# Altium integrated library Microchip dsPIC33F.IntLib: 775 symbols (part 38 of 44)
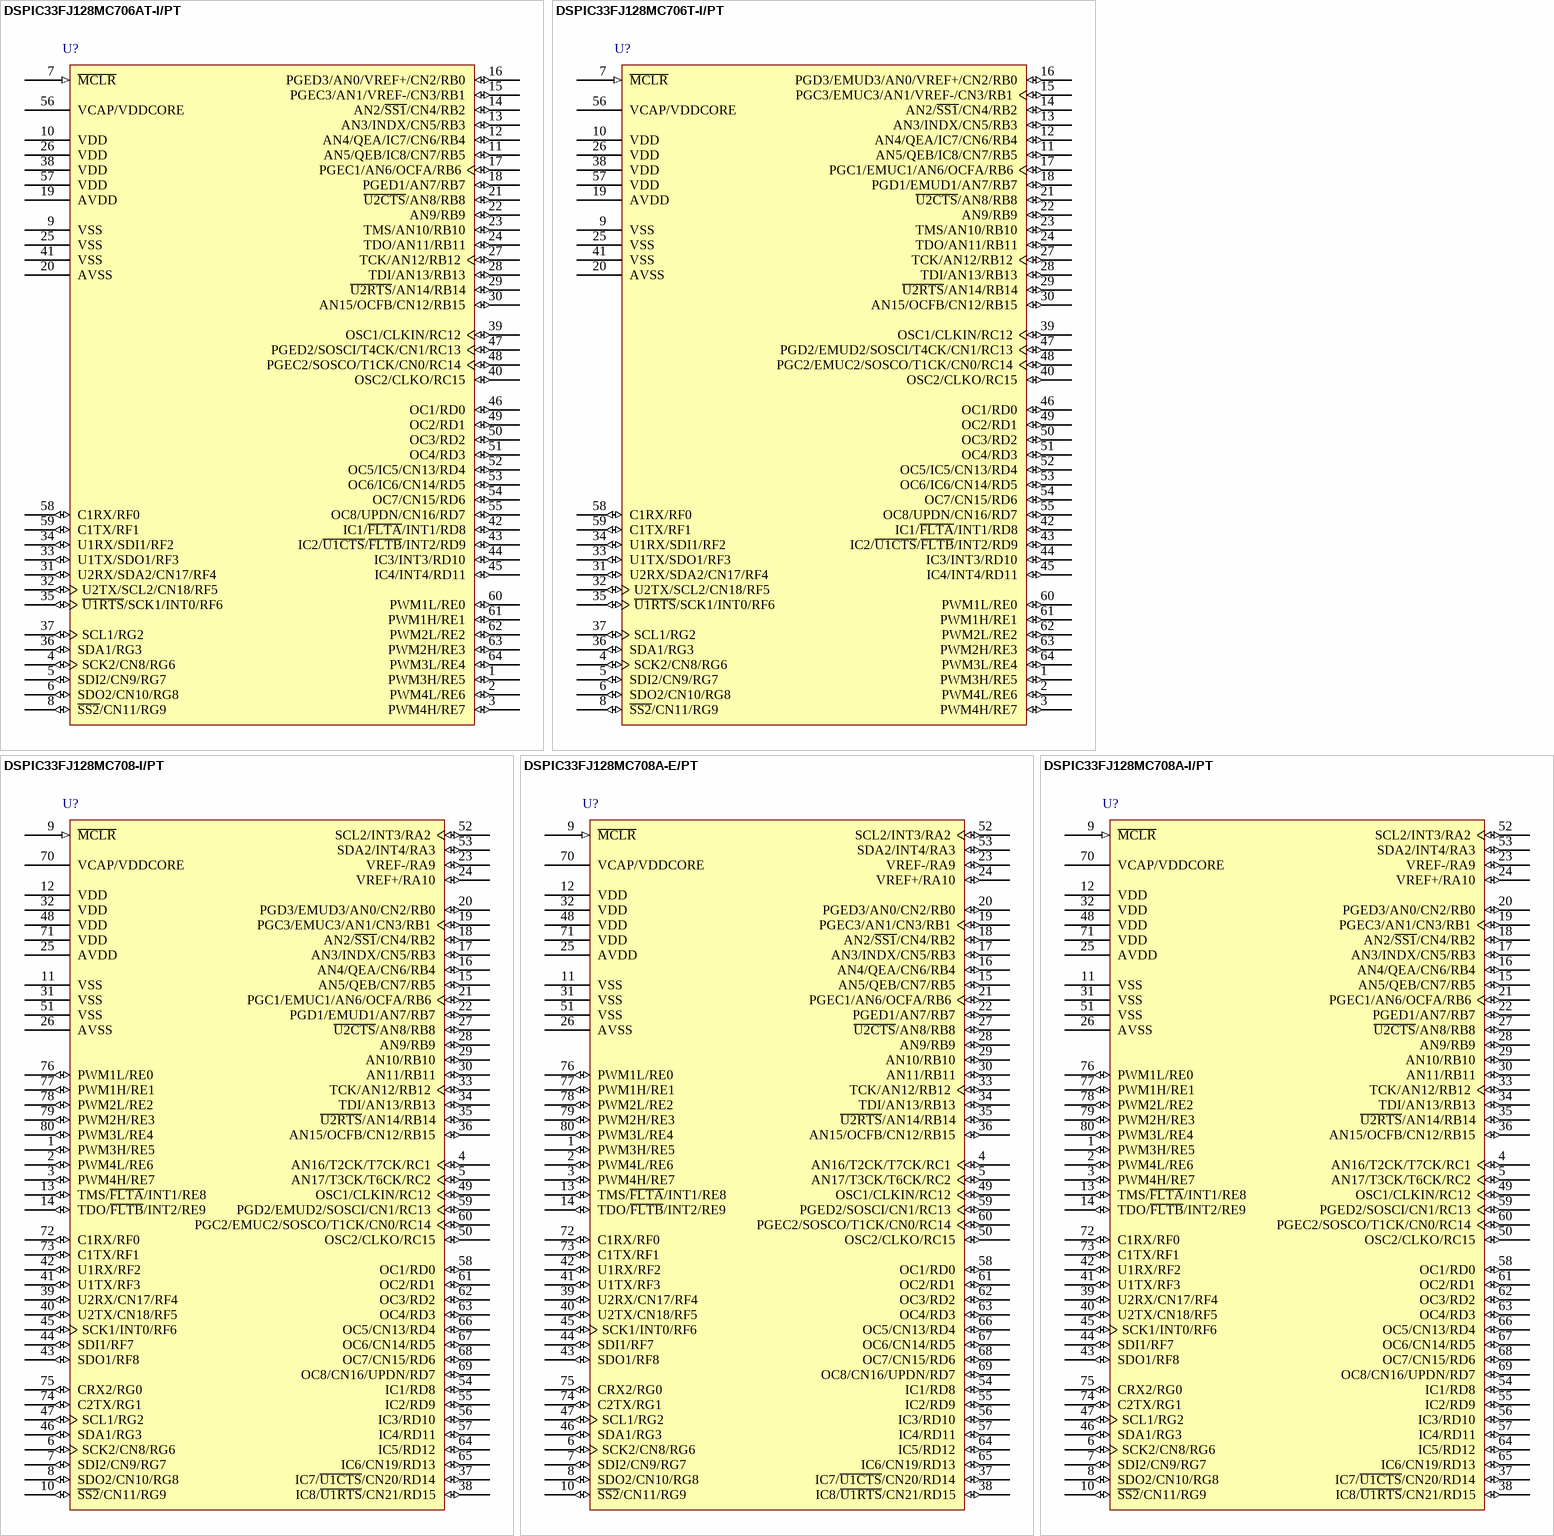
[diagram p195: symbols DSPIC33FJ128MC706AT-I/PT to DSPIC33FJ128MC708A-I/PT]

## DSPIC33FJ128MC708A-E/PT
designator U?
High-Performance 16-bit Digital Signal Controller, 128 KB Flash, 16 KB RAM , 80-Pin TQFP, Extended High Temperature; Manufacturer: Microchip; PartNumber: DSPIC33FJ128MC708A-E/PT; DatasheetVersion: revB, Oct-2009; PackageVersion: revBB, Aug-2009; PackageReference: TQFP-PT80; PackageDescription: 80-Lead Thin Plastic Quad Flat Pack (PT) - 12x12x1mm Body, 2.00mm [TQFP]; Supplier 1: Digi-Key; Supplier Part Number 1: DSPIC33FJ128MC708A-E/PT-ND; Supplier 2: Mouser; Supplier Part Number 2: 579-PIC3128MC708AEPT; Mounting Technology: Surface Mount; Code_JEDEC: MS-026; ComponentLink1Description: Manufacturer URL; ComponentLink1URL: http://www.microchip.com/; ComponentLink2Description: Datasheet; ComponentLink2URL: http://ww1.microchip.com/downloads/en/DeviceDoc/70594B.pdf; ComponentLink3Description: Package Specification; ComponentLink3URL: http://www.microchip.com/stellent/groups/techpub_sg/documents/packagingspec/en012702.pdf
footprint TQFP-PT80_N (Thin QFP, 80-Leads, Body 12x12mm, Pitch 0.5mm, IPC Medium Density)
footprint TQFP-PT80_L (Thin QFP, 80-Leads, Body 12x12mm, Pitch 0.5mm, IPC High Density)
footprint TQFP-PT80_M (Thin QFP, 80-Leads, Body 12x12mm, Pitch 0.5mm, IPC Low Density)
pins: 1 PWM3H/RE5 (io), 2 PWM4L/RE6 (io), 3 PWM4H/RE7 (io), 4 AN16/T2CK/T7CK/RC1 (io), 5 AN17/T3CK/T6CK/RC2 (io), 6 SCK2/CN8/RG6 (io), 7 SDI2/CN9/RG7 (io), 8 SDO2/CN10/RG8 (io), 9 ~{MCLR} (in), 10 ~{SS2}/CN11/RG9 (io), 11 VSS (power), 12 VDD (power), 13 TMS/~{FLTA}/INT1/RE8 (io), 14 TDO/~{FLTB}/INT2/RE9 (io), 15 AN5/QEB/CN7/RB5 (io), 16 AN4/QEA/CN6/RB4 (io), 17 AN3/INDX/CN5/RB3 (io), 18 AN2/~{SS1}/CN4/RB2 (io), 19 PGEC3/AN1/CN3/RB1 (io), 20 PGED3/AN0/CN2/RB0 (io), 21 PGEC1/AN6/OCFA/RB6 (io), 22 PGED1/AN7/RB7 (io), 23 VREF-/RA9 (io), 24 VREF+/RA10 (io), 25 AVDD (power), 26 AVSS (power), 27 ~{U2CTS}/AN8/RB8 (io), 28 AN9/RB9 (io), 29 AN10/RB10 (io), 30 AN11/RB11 (io), 31 VSS (power), 32 VDD (power), 33 TCK/AN12/RB12 (io), 34 TDI/AN13/RB13 (io), 35 ~{U2RTS}/AN14/RB14 (io), 36 AN15/OCFB/CN12/RB15 (io), 37 IC7/~{U1CTS}/CN20/RD14 (io), 38 IC8/~{U1RTS}/CN21/RD15 (io), 39 U2RX/CN17/RF4 (io), 40 U2TX/CN18/RF5 (io), 41 U1TX/RF3 (io), 42 U1RX/RF2 (io), 43 SDO1/RF8 (io), 44 SDI1/RF7 (io), 45 SCK1/INT0/RF6 (io), 46 SDA1/RG3 (io), 47 SCL1/RG2 (io), 48 VDD (power), 49 OSC1/CLKIN/RC12 (io), 50 OSC2/CLKO/RC15 (io), 51 VSS (power), 52 SCL2/INT3/RA2 (io), 53 SDA2/INT4/RA3 (io), 54 IC1/RD8 (io), 55 IC2/RD9 (io), 56 IC3/RD10 (io), 57 IC4/RD11 (io), 58 OC1/RD0 (io), 59 PGED2/SOSCI/CN1/RC13 (io), 60 PGEC2/SOSCO/T1CK/CN0/RC14 (io), 61 OC2/RD1 (io), 62 OC3/RD2 (io), 63 OC4/RD3 (io), 64 IC5/RD12 (io), 65 IC6/CN19/RD13 (io), 66 OC5/CN13/RD4 (io), 67 OC6/CN14/RD5 (io), 68 OC7/CN15/RD6 (io), 69 OC8/CN16/UPDN/RD7 (io), 70 VCAP/VDDCORE (power), 71 VDD (power), 72 C1RX/RF0 (io), 73 C1TX/RF1 (io), 74 C2TX/RG1 (io), 75 CRX2/RG0 (io), 76 PWM1L/RE0 (io), 77 PWM1H/RE1 (io), 78 PWM2L/RE2 (io), 79 PWM2H/RE3 (io), 80 PWM3L/RE4 (io)

## DSPIC33FJ128MC708A-I/PT
designator U?
High-Performance 16-bit Digital Signal Controller, 128 KB Flash, 16 KB RAM , 80-Pin TQFP, Industrial Temperature; Manufacturer: Microchip; PartNumber: DSPIC33FJ128MC708A-I/PT; DatasheetVersion: revB, Oct-2009; PackageVersion: revBB, Aug-2009; PackageReference: TQFP-PT80; PackageDescription: 80-Lead Thin Plastic Quad Flat Pack (PT) - 12x12x1mm Body, 2.00mm [TQFP]; Supplier 1: Digi-Key; Supplier Part Number 1: DSPIC33FJ128MC708A-I/PT-ND; Supplier 2: Newark; Supplier Part Number 2: 45P4636; Supplier 3: Mouser; Supplier Part Number 3: N/A; Mounting Technology: Surface Mount; Code_JEDEC: MS-026; ComponentLink1Description: Manufacturer URL; ComponentLink1URL: http://www.microchip.com/; ComponentLink2Description: Datasheet; ComponentLink2URL: http://ww1.microchip.com/downloads/en/DeviceDoc/70594B.pdf; ComponentLink3Description: Package Specification; ComponentLink3URL: http://www.microchip.com/stellent/groups/techpub_sg/documents/packagingspec/en012702.pdf
footprint TQFP-PT80_N (Thin QFP, 80-Leads, Body 12x12mm, Pitch 0.5mm, IPC Medium Density)
footprint TQFP-PT80_L (Thin QFP, 80-Leads, Body 12x12mm, Pitch 0.5mm, IPC High Density)
footprint TQFP-PT80_M (Thin QFP, 80-Leads, Body 12x12mm, Pitch 0.5mm, IPC Low Density)
pins: 1 PWM3H/RE5 (io), 2 PWM4L/RE6 (io), 3 PWM4H/RE7 (io), 4 AN16/T2CK/T7CK/RC1 (io), 5 AN17/T3CK/T6CK/RC2 (io), 6 SCK2/CN8/RG6 (io), 7 SDI2/CN9/RG7 (io), 8 SDO2/CN10/RG8 (io), 9 ~{MCLR} (in), 10 ~{SS2}/CN11/RG9 (io), 11 VSS (power), 12 VDD (power), 13 TMS/~{FLTA}/INT1/RE8 (io), 14 TDO/~{FLTB}/INT2/RE9 (io), 15 AN5/QEB/CN7/RB5 (io), 16 AN4/QEA/CN6/RB4 (io), 17 AN3/INDX/CN5/RB3 (io), 18 AN2/~{SS1}/CN4/RB2 (io), 19 PGEC3/AN1/CN3/RB1 (io), 20 PGED3/AN0/CN2/RB0 (io), 21 PGEC1/AN6/OCFA/RB6 (io), 22 PGED1/AN7/RB7 (io), 23 VREF-/RA9 (io), 24 VREF+/RA10 (io), 25 AVDD (power), 26 AVSS (power), 27 ~{U2CTS}/AN8/RB8 (io), 28 AN9/RB9 (io), 29 AN10/RB10 (io), 30 AN11/RB11 (io), 31 VSS (power), 32 VDD (power), 33 TCK/AN12/RB12 (io), 34 TDI/AN13/RB13 (io), 35 ~{U2RTS}/AN14/RB14 (io), 36 AN15/OCFB/CN12/RB15 (io), 37 IC7/~{U1CTS}/CN20/RD14 (io), 38 IC8/~{U1RTS}/CN21/RD15 (io), 39 U2RX/CN17/RF4 (io), 40 U2TX/CN18/RF5 (io), 41 U1TX/RF3 (io), 42 U1RX/RF2 (io), 43 SDO1/RF8 (io), 44 SDI1/RF7 (io), 45 SCK1/INT0/RF6 (io), 46 SDA1/RG3 (io), 47 SCL1/RG2 (io), 48 VDD (power), 49 OSC1/CLKIN/RC12 (io), 50 OSC2/CLKO/RC15 (io), 51 VSS (power), 52 SCL2/INT3/RA2 (io), 53 SDA2/INT4/RA3 (io), 54 IC1/RD8 (io), 55 IC2/RD9 (io), 56 IC3/RD10 (io), 57 IC4/RD11 (io), 58 OC1/RD0 (io), 59 PGED2/SOSCI/CN1/RC13 (io), 60 PGEC2/SOSCO/T1CK/CN0/RC14 (io), 61 OC2/RD1 (io), 62 OC3/RD2 (io), 63 OC4/RD3 (io), 64 IC5/RD12 (io), 65 IC6/CN19/RD13 (io), 66 OC5/CN13/RD4 (io), 67 OC6/CN14/RD5 (io), 68 OC7/CN15/RD6 (io), 69 OC8/CN16/UPDN/RD7 (io), 70 VCAP/VDDCORE (power), 71 VDD (power), 72 C1RX/RF0 (io), 73 C1TX/RF1 (io), 74 C2TX/RG1 (io), 75 CRX2/RG0 (io), 76 PWM1L/RE0 (io), 77 PWM1H/RE1 (io), 78 PWM2L/RE2 (io), 79 PWM2H/RE3 (io), 80 PWM3L/RE4 (io)

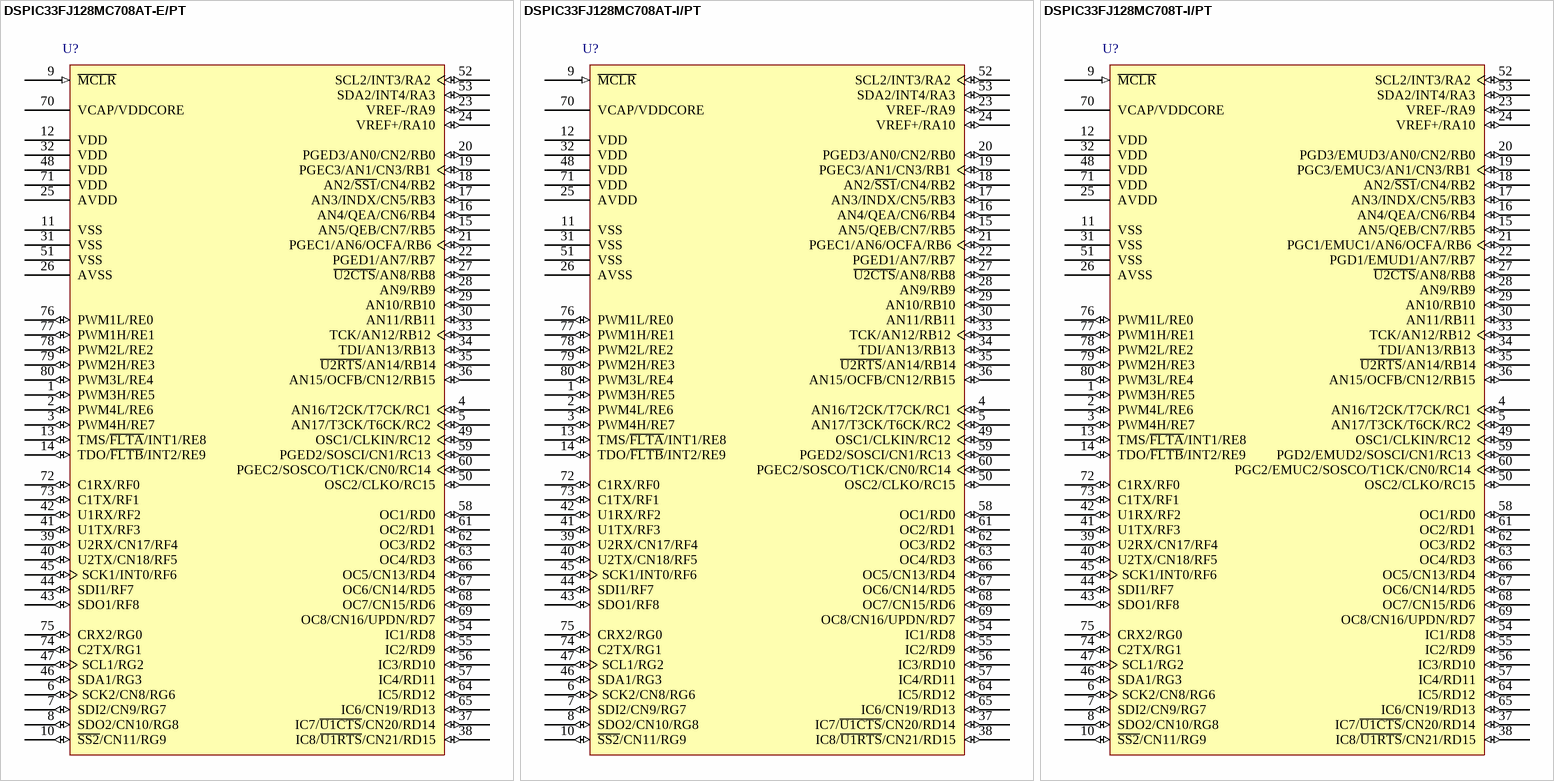
[diagram p133: symbols DSPIC33FJ128MC708AT-E/PT to DSPIC33FJ128MC708T-I/PT]

## DSPIC33FJ128MC708AT-E/PT
designator U?
High-Performance 16-bit Digital Signal Controller, 128 KB Flash, 16 KB RAM , 80-Pin TQFP, Extended High Temperature , Tape and Reel; Manufacturer: Microchip; PartNumber: DSPIC33FJ128MC708AT-E/PT; DatasheetVersion: revB, Oct-2009; PackageVersion: revBB, Aug-2009; PackageReference: TQFP-PT80; PackageDescription: 80-Lead Thin Plastic Quad Flat Pack (PT) - 12x12x1mm Body, 2.00mm [TQFP]; Mounting Technology: Surface Mount; Code_JEDEC: MS-026; ComponentLink1Description: Manufacturer URL; ComponentLink1URL: http://www.microchip.com/; ComponentLink2Description: Datasheet; ComponentLink2URL: http://ww1.microchip.com/downloads/en/DeviceDoc/70594B.pdf; ComponentLink3Description: Package Specification; ComponentLink3URL: http://www.microchip.com/stellent/groups/techpub_sg/documents/packagingspec/en012702.pdf
footprint TQFP-PT80_N (Thin QFP, 80-Leads, Body 12x12mm, Pitch 0.5mm, IPC Medium Density)
footprint TQFP-PT80_L (Thin QFP, 80-Leads, Body 12x12mm, Pitch 0.5mm, IPC High Density)
footprint TQFP-PT80_M (Thin QFP, 80-Leads, Body 12x12mm, Pitch 0.5mm, IPC Low Density)
pins: 1 PWM3H/RE5 (io), 2 PWM4L/RE6 (io), 3 PWM4H/RE7 (io), 4 AN16/T2CK/T7CK/RC1 (io), 5 AN17/T3CK/T6CK/RC2 (io), 6 SCK2/CN8/RG6 (io), 7 SDI2/CN9/RG7 (io), 8 SDO2/CN10/RG8 (io), 9 ~{MCLR} (in), 10 ~{SS2}/CN11/RG9 (io), 11 VSS (power), 12 VDD (power), 13 TMS/~{FLTA}/INT1/RE8 (io), 14 TDO/~{FLTB}/INT2/RE9 (io), 15 AN5/QEB/CN7/RB5 (io), 16 AN4/QEA/CN6/RB4 (io), 17 AN3/INDX/CN5/RB3 (io), 18 AN2/~{SS1}/CN4/RB2 (io), 19 PGEC3/AN1/CN3/RB1 (io), 20 PGED3/AN0/CN2/RB0 (io), 21 PGEC1/AN6/OCFA/RB6 (io), 22 PGED1/AN7/RB7 (io), 23 VREF-/RA9 (io), 24 VREF+/RA10 (io), 25 AVDD (power), 26 AVSS (power), 27 ~{U2CTS}/AN8/RB8 (io), 28 AN9/RB9 (io), 29 AN10/RB10 (io), 30 AN11/RB11 (io), 31 VSS (power), 32 VDD (power), 33 TCK/AN12/RB12 (io), 34 TDI/AN13/RB13 (io), 35 ~{U2RTS}/AN14/RB14 (io), 36 AN15/OCFB/CN12/RB15 (io), 37 IC7/~{U1CTS}/CN20/RD14 (io), 38 IC8/~{U1RTS}/CN21/RD15 (io), 39 U2RX/CN17/RF4 (io), 40 U2TX/CN18/RF5 (io), 41 U1TX/RF3 (io), 42 U1RX/RF2 (io), 43 SDO1/RF8 (io), 44 SDI1/RF7 (io), 45 SCK1/INT0/RF6 (io), 46 SDA1/RG3 (io), 47 SCL1/RG2 (io), 48 VDD (power), 49 OSC1/CLKIN/RC12 (io), 50 OSC2/CLKO/RC15 (io), 51 VSS (power), 52 SCL2/INT3/RA2 (io), 53 SDA2/INT4/RA3 (io), 54 IC1/RD8 (io), 55 IC2/RD9 (io), 56 IC3/RD10 (io), 57 IC4/RD11 (io), 58 OC1/RD0 (io), 59 PGED2/SOSCI/CN1/RC13 (io), 60 PGEC2/SOSCO/T1CK/CN0/RC14 (io), 61 OC2/RD1 (io), 62 OC3/RD2 (io), 63 OC4/RD3 (io), 64 IC5/RD12 (io), 65 IC6/CN19/RD13 (io), 66 OC5/CN13/RD4 (io), 67 OC6/CN14/RD5 (io), 68 OC7/CN15/RD6 (io), 69 OC8/CN16/UPDN/RD7 (io), 70 VCAP/VDDCORE (power), 71 VDD (power), 72 C1RX/RF0 (io), 73 C1TX/RF1 (io), 74 C2TX/RG1 (io), 75 CRX2/RG0 (io), 76 PWM1L/RE0 (io), 77 PWM1H/RE1 (io), 78 PWM2L/RE2 (io), 79 PWM2H/RE3 (io), 80 PWM3L/RE4 (io)

## DSPIC33FJ128MC708AT-I/PT
designator U?
High-Performance 16-bit Digital Signal Controller, 128 KB Flash, 16 KB RAM , 80-Pin TQFP, Industrial Temperature , Tape and Reel; Manufacturer: Microchip; PartNumber: DSPIC33FJ128MC708AT-I/PT; DatasheetVersion: revB, Oct-2009; PackageVersion: revBB, Aug-2009; PackageReference: TQFP-PT80; PackageDescription: 80-Lead Thin Plastic Quad Flat Pack (PT) - 12x12x1mm Body, 2.00mm [TQFP]; Supplier 1: Digi-Key; Supplier Part Number 1: DSPIC33FJ128MC708AT-I/PT-ND; Supplier 2: Mouser; Supplier Part Number 2: 579-FJ128MC708ATI/PT; Mounting Technology: Surface Mount; Code_JEDEC: MS-026; ComponentLink1Description: Manufacturer URL; ComponentLink1URL: http://www.microchip.com/; ComponentLink2Description: Datasheet; ComponentLink2URL: http://ww1.microchip.com/downloads/en/DeviceDoc/70594B.pdf; ComponentLink3Description: Package Specification; ComponentLink3URL: http://www.microchip.com/stellent/groups/techpub_sg/documents/packagingspec/en012702.pdf
footprint TQFP-PT80_N (Thin QFP, 80-Leads, Body 12x12mm, Pitch 0.5mm, IPC Medium Density)
footprint TQFP-PT80_L (Thin QFP, 80-Leads, Body 12x12mm, Pitch 0.5mm, IPC High Density)
footprint TQFP-PT80_M (Thin QFP, 80-Leads, Body 12x12mm, Pitch 0.5mm, IPC Low Density)
pins: 1 PWM3H/RE5 (io), 2 PWM4L/RE6 (io), 3 PWM4H/RE7 (io), 4 AN16/T2CK/T7CK/RC1 (io), 5 AN17/T3CK/T6CK/RC2 (io), 6 SCK2/CN8/RG6 (io), 7 SDI2/CN9/RG7 (io), 8 SDO2/CN10/RG8 (io), 9 ~{MCLR} (in), 10 ~{SS2}/CN11/RG9 (io), 11 VSS (power), 12 VDD (power), 13 TMS/~{FLTA}/INT1/RE8 (io), 14 TDO/~{FLTB}/INT2/RE9 (io), 15 AN5/QEB/CN7/RB5 (io), 16 AN4/QEA/CN6/RB4 (io), 17 AN3/INDX/CN5/RB3 (io), 18 AN2/~{SS1}/CN4/RB2 (io), 19 PGEC3/AN1/CN3/RB1 (io), 20 PGED3/AN0/CN2/RB0 (io), 21 PGEC1/AN6/OCFA/RB6 (io), 22 PGED1/AN7/RB7 (io), 23 VREF-/RA9 (io), 24 VREF+/RA10 (io), 25 AVDD (power), 26 AVSS (power), 27 ~{U2CTS}/AN8/RB8 (io), 28 AN9/RB9 (io), 29 AN10/RB10 (io), 30 AN11/RB11 (io), 31 VSS (power), 32 VDD (power), 33 TCK/AN12/RB12 (io), 34 TDI/AN13/RB13 (io), 35 ~{U2RTS}/AN14/RB14 (io), 36 AN15/OCFB/CN12/RB15 (io), 37 IC7/~{U1CTS}/CN20/RD14 (io), 38 IC8/~{U1RTS}/CN21/RD15 (io), 39 U2RX/CN17/RF4 (io), 40 U2TX/CN18/RF5 (io), 41 U1TX/RF3 (io), 42 U1RX/RF2 (io), 43 SDO1/RF8 (io), 44 SDI1/RF7 (io), 45 SCK1/INT0/RF6 (io), 46 SDA1/RG3 (io), 47 SCL1/RG2 (io), 48 VDD (power), 49 OSC1/CLKIN/RC12 (io), 50 OSC2/CLKO/RC15 (io), 51 VSS (power), 52 SCL2/INT3/RA2 (io), 53 SDA2/INT4/RA3 (io), 54 IC1/RD8 (io), 55 IC2/RD9 (io), 56 IC3/RD10 (io), 57 IC4/RD11 (io), 58 OC1/RD0 (io), 59 PGED2/SOSCI/CN1/RC13 (io), 60 PGEC2/SOSCO/T1CK/CN0/RC14 (io), 61 OC2/RD1 (io), 62 OC3/RD2 (io), 63 OC4/RD3 (io), 64 IC5/RD12 (io), 65 IC6/CN19/RD13 (io), 66 OC5/CN13/RD4 (io), 67 OC6/CN14/RD5 (io), 68 OC7/CN15/RD6 (io), 69 OC8/CN16/UPDN/RD7 (io), 70 VCAP/VDDCORE (power), 71 VDD (power), 72 C1RX/RF0 (io), 73 C1TX/RF1 (io), 74 C2TX/RG1 (io), 75 CRX2/RG0 (io), 76 PWM1L/RE0 (io), 77 PWM1H/RE1 (io), 78 PWM2L/RE2 (io), 79 PWM2H/RE3 (io), 80 PWM3L/RE4 (io)

## DSPIC33FJ128MC708T-I/PT
designator U?
High-Performance 16-bit Digital Signal Controller, 128 KB Flash, 16 KB RAM, 80-Pin TQFP, Industrial Temperature, Tape and Reel; Manufacturer: Microchip; PartNumber: DSPIC33FJ128MC708T-I/PT; DatasheetVersion: revC, Mar-2009; PackageVersion: revBB, Aug-2009; PackageReference: TQFP-PT80; PackageDescription: 80-Lead Thin Plastic Quad Flat Pack (PT) - 12x12x1mm Body, 2.00mm [TQFP]; Supplier 1: Digi-Key; Supplier Part Number 1: DSPIC33FJ128MC708T-I/PT-ND; Supplier 2: Mouser; Supplier Part Number 2: 579-DS33FJ128708TIPT; Mounting Technology: Surface Mount; Code_JEDEC: MS-026; ComponentLink1Description: Manufacturer URL; ComponentLink1URL: http://www.microchip.com/; ComponentLink2Description: Datasheet; ComponentLink2URL: http://ww1.microchip.com/downloads/en/DeviceDoc/70287C.pdf; ComponentLink3Description: Package Specification; ComponentLink3URL: http://www.microchip.com/stellent/groups/techpub_sg/documents/packagingspec/en012702.pdf
footprint TQFP-PT80_N (Thin QFP, 80-Leads, Body 12x12mm, Pitch 0.5mm, IPC Medium Density)
footprint TQFP-PT80_L (Thin QFP, 80-Leads, Body 12x12mm, Pitch 0.5mm, IPC High Density)
footprint TQFP-PT80_M (Thin QFP, 80-Leads, Body 12x12mm, Pitch 0.5mm, IPC Low Density)
pins: 1 PWM3H/RE5 (io), 2 PWM4L/RE6 (io), 3 PWM4H/RE7 (io), 4 AN16/T2CK/T7CK/RC1 (io), 5 AN17/T3CK/T6CK/RC2 (io), 6 SCK2/CN8/RG6 (io), 7 SDI2/CN9/RG7 (io), 8 SDO2/CN10/RG8 (io), 9 ~{MCLR} (in), 10 ~{SS2}/CN11/RG9 (io), 11 VSS (power), 12 VDD (power), 13 TMS/~{FLTA}/INT1/RE8 (io), 14 TDO/~{FLTB}/INT2/RE9 (io), 15 AN5/QEB/CN7/RB5 (io), 16 AN4/QEA/CN6/RB4 (io), 17 AN3/INDX/CN5/RB3 (io), 18 AN2/~{SS1}/CN4/RB2 (io), 19 PGC3/EMUC3/AN1/CN3/RB1 (io), 20 PGD3/EMUD3/AN0/CN2/RB0 (io), 21 PGC1/EMUC1/AN6/OCFA/RB6 (io), 22 PGD1/EMUD1/AN7/RB7 (io), 23 VREF-/RA9 (io), 24 VREF+/RA10 (io), 25 AVDD (power), 26 AVSS (power), 27 ~{U2CTS}/AN8/RB8 (io), 28 AN9/RB9 (io), 29 AN10/RB10 (io), 30 AN11/RB11 (io), 31 VSS (power), 32 VDD (power), 33 TCK/AN12/RB12 (io), 34 TDI/AN13/RB13 (io), 35 ~{U2RTS}/AN14/RB14 (io), 36 AN15/OCFB/CN12/RB15 (io), 37 IC7/~{U1CTS}/CN20/RD14 (io), 38 IC8/~{U1RTS}/CN21/RD15 (io), 39 U2RX/CN17/RF4 (io), 40 U2TX/CN18/RF5 (io), 41 U1TX/RF3 (io), 42 U1RX/RF2 (io), 43 SDO1/RF8 (io), 44 SDI1/RF7 (io), 45 SCK1/INT0/RF6 (io), 46 SDA1/RG3 (io), 47 SCL1/RG2 (io), 48 VDD (power), 49 OSC1/CLKIN/RC12 (io), 50 OSC2/CLKO/RC15 (io), 51 VSS (power), 52 SCL2/INT3/RA2 (io), 53 SDA2/INT4/RA3 (io), 54 IC1/RD8 (io), 55 IC2/RD9 (io), 56 IC3/RD10 (io), 57 IC4/RD11 (io), 58 OC1/RD0 (io), 59 PGD2/EMUD2/SOSCI/CN1/RC13 (io), 60 PGC2/EMUC2/SOSCO/T1CK/CN0/RC14 (io), 61 OC2/RD1 (io), 62 OC3/RD2 (io), 63 OC4/RD3 (io), 64 IC5/RD12 (io), 65 IC6/CN19/RD13 (io), 66 OC5/CN13/RD4 (io), 67 OC6/CN14/RD5 (io), 68 OC7/CN15/RD6 (io), 69 OC8/CN16/UPDN/RD7 (io), 70 VCAP/VDDCORE (power), 71 VDD (power), 72 C1RX/RF0 (io), 73 C1TX/RF1 (io), 74 C2TX/RG1 (io), 75 CRX2/RG0 (io), 76 PWM1L/RE0 (io), 77 PWM1H/RE1 (io), 78 PWM2L/RE2 (io), 79 PWM2H/RE3 (io), 80 PWM3L/RE4 (io)

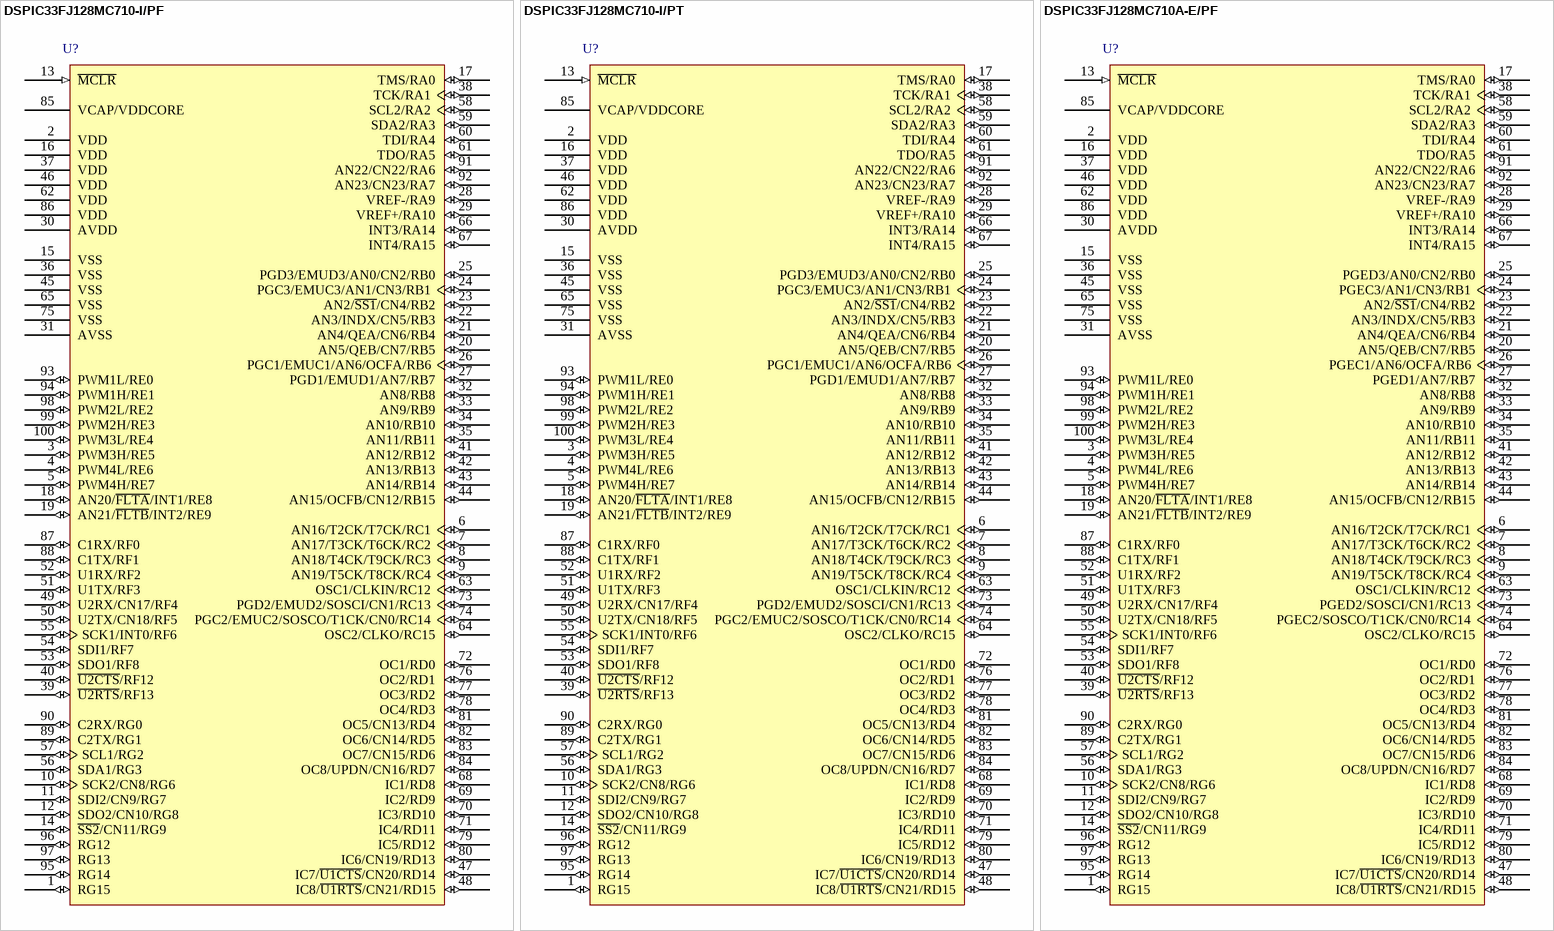
[diagram p134: symbols DSPIC33FJ128MC710-I/PF to DSPIC33FJ128MC710A-E/PF]

## DSPIC33FJ128MC710-I/PF
designator U?
High-Performance 16-bit Digital Signal Controller, 128 KB Flash, 16 KB RAM, 100-Pin TQFP, Industrial Temperature; Manufacturer: Microchip; PartNumber: DSPIC33FJ128MC710-I/PF; DatasheetVersion: revC, Mar-2009; PackageVersion: revBB, Aug-2009; PackageReference: TQFP-PF100; PackageDescription: 100-Lead Thin Plastic Quad Flat Pack (PF) - 14x14x1mm Body, 2.00mm [TQFP]; Supplier 1: Digi-Key; Supplier Part Number 1: DSPIC33FJ128MC710-I/PF-ND; Supplier 2: Mouser; Supplier Part Number 2: 579-DS33FJ128MC710PF; Mounting Technology: Surface Mount; ComponentLink1Description: Manufacturer URL; ComponentLink1URL: http://www.microchip.com/; ComponentLink2Description: Datasheet; ComponentLink2URL: http://ww1.microchip.com/downloads/en/DeviceDoc/70287C.pdf; ComponentLink3Description: Package Specification; ComponentLink3URL: http://www.microchip.com/stellent/groups/techpub_sg/documents/packagingspec/en012702.pdf
footprint TQFP-PF100_N (Thin QFP, 100-Leads, Body 14x14mm, Pitch 0.5mm, IPC Medium Density)
footprint TQFP-PF100_L (Thin QFP, 100-Leads, Body 14x14mm, Pitch 0.5mm, IPC High Density)
footprint TQFP-PF100_M (Thin QFP, 100-Leads, Body 14x14mm, Pitch 0.5mm, IPC Low Density)
pins: 1 RG15 (io), 2 VDD (power), 3 PWM3H/RE5 (io), 4 PWM4L/RE6 (io), 5 PWM4H/RE7 (io), 6 AN16/T2CK/T7CK/RC1 (io), 7 AN17/T3CK/T6CK/RC2 (io), 8 AN18/T4CK/T9CK/RC3 (io), 9 AN19/T5CK/T8CK/RC4 (io), 10 SCK2/CN8/RG6 (io), 11 SDI2/CN9/RG7 (io), 12 SDO2/CN10/RG8 (io), 13 ~{MCLR} (in), 14 ~{SS2}/CN11/RG9 (io), 15 VSS (power), 16 VDD (power), 17 TMS/RA0 (io), 18 AN20/~{FLTA}/INT1/RE8 (io), 19 AN21/~{FLTB}/INT2/RE9 (io), 20 AN5/QEB/CN7/RB5 (io), 21 AN4/QEA/CN6/RB4 (io), 22 AN3/INDX/CN5/RB3 (io), 23 AN2/~{SS1}/CN4/RB2 (io), 24 PGC3/EMUC3/AN1/CN3/RB1 (io), 25 PGD3/EMUD3/AN0/CN2/RB0 (io), 26 PGC1/EMUC1/AN6/OCFA/RB6 (io), 27 PGD1/EMUD1/AN7/RB7 (io), 28 VREF-/RA9 (io), 29 VREF+/RA10 (io), 30 AVDD (power), 31 AVSS (power), 32 AN8/RB8 (io), 33 AN9/RB9 (io), 34 AN10/RB10 (io), 35 AN11/RB11 (io), 36 VSS (power), 37 VDD (power), 38 TCK/RA1 (io), 39 ~{U2RTS}/RF13 (io), 40 ~{U2CTS}/RF12 (io), 41 AN12/RB12 (io), 42 AN13/RB13 (io), 43 AN14/RB14 (io), 44 AN15/OCFB/CN12/RB15 (io), 45 VSS (power), 46 VDD (power), 47 IC7/~{U1CTS}/CN20/RD14 (io), 48 IC8/~{U1RTS}/CN21/RD15 (io), 49 U2RX/CN17/RF4 (io), 50 U2TX/CN18/RF5 (io), 51 U1TX/RF3 (io), 52 U1RX/RF2 (io), 53 SDO1/RF8 (io), 54 SDI1/RF7 (io), 55 SCK1/INT0/RF6 (io), 56 SDA1/RG3 (io), 57 SCL1/RG2 (io), 58 SCL2/RA2 (io), 59 SDA2/RA3 (io), 60 TDI/RA4 (io), 61 TDO/RA5 (io), 62 VDD (power), 63 OSC1/CLKIN/RC12 (io), 64 OSC2/CLKO/RC15 (io), 65 VSS (power), 66 INT3/RA14 (io), 67 INT4/RA15 (io), 68 IC1/RD8 (io), 69 IC2/RD9 (io), 70 IC3/RD10 (io), 71 IC4/RD11 (io), 72 OC1/RD0 (io), 73 PGD2/EMUD2/SOSCI/CN1/RC13 (io), 74 PGC2/EMUC2/SOSCO/T1CK/CN0/RC14 (io), 75 VSS (power), 76 OC2/RD1 (io), 77 OC3/RD2 (io), 78 OC4/RD3 (io), 79 IC5/RD12 (io), 80 IC6/CN19/RD13 (io), 81 OC5/CN13/RD4 (io), 82 OC6/CN14/RD5 (io), 83 OC7/CN15/RD6 (io), 84 OC8/UPDN/CN16/RD7 (io), 85 VCAP/VDDCORE (power), 86 VDD (power), 87 C1RX/RF0 (io), 88 C1TX/RF1 (io), 89 C2TX/RG1 (io), 90 C2RX/RG0 (io), 91 AN22/CN22/RA6 (io), 92 AN23/CN23/RA7 (io), 93 PWM1L/RE0 (io), 94 PWM1H/RE1 (io), 95 RG14 (io), 96 RG12 (io), 97 RG13 (io), 98 PWM2L/RE2 (io), 99 PWM2H/RE3 (io), 100 PWM3L/RE4 (io)

## DSPIC33FJ128MC710-I/PT
designator U?
High-Performance 16-bit Digital Signal Controller, 128 KB Flash, 16 KB RAM, 100-Pin TQFP, Industrial Temperature; Manufacturer: Microchip; PartNumber: DSPIC33FJ128MC710-I/PT; DatasheetVersion: revC, Mar-2009; PackageVersion: revBB, Aug-2009; PackageReference: TQFP-PT100; PackageDescription: 100-Lead Plastic Thin Quad Flatpack (PT) - 12x12x1mm Body, 2.00mm [TQFP]; Supplier 1: Digi-Key; Supplier Part Number 1: DSPIC33FJ128MC710-I/PT-ND; Supplier 2: Farnell; Supplier Part Number 2: 1332040; Supplier 3: Newark; Supplier Part Number 3: 56K6746; Supplier 4: Mouser; Supplier Part Number 4: 579-DS33FJ128MC710PT; Mounting Technology: Surface Mount; ComponentLink1Description: Manufacturer URL; ComponentLink1URL: http://www.microchip.com/; ComponentLink2Description: Datasheet; ComponentLink2URL: http://ww1.microchip.com/downloads/en/DeviceDoc/70287C.pdf; ComponentLink3Description: Package Specification; ComponentLink3URL: http://www.microchip.com/stellent/groups/techpub_sg/documents/packagingspec/en012702.pdf
footprint TQFP-PT100_N (Thin QFP, 100-Leads, Body 12x12mm, Pitch 0.4mm, IPC Medium Density)
footprint TQFP-PT100_L (Thin QFP, 100-Leads, Body 12x12mm, Pitch 0.4mm, IPC High Density)
footprint TQFP-PT100_M (Thin QFP, 100-Leads, Body 12x12mm, Pitch 0.4mm, IPC Low Density)
pins: 1 RG15 (io), 2 VDD (power), 3 PWM3H/RE5 (io), 4 PWM4L/RE6 (io), 5 PWM4H/RE7 (io), 6 AN16/T2CK/T7CK/RC1 (io), 7 AN17/T3CK/T6CK/RC2 (io), 8 AN18/T4CK/T9CK/RC3 (io), 9 AN19/T5CK/T8CK/RC4 (io), 10 SCK2/CN8/RG6 (io), 11 SDI2/CN9/RG7 (io), 12 SDO2/CN10/RG8 (io), 13 ~{MCLR} (in), 14 ~{SS2}/CN11/RG9 (io), 15 VSS (power), 16 VDD (power), 17 TMS/RA0 (io), 18 AN20/~{FLTA}/INT1/RE8 (io), 19 AN21/~{FLTB}/INT2/RE9 (io), 20 AN5/QEB/CN7/RB5 (io), 21 AN4/QEA/CN6/RB4 (io), 22 AN3/INDX/CN5/RB3 (io), 23 AN2/~{SS1}/CN4/RB2 (io), 24 PGC3/EMUC3/AN1/CN3/RB1 (io), 25 PGD3/EMUD3/AN0/CN2/RB0 (io), 26 PGC1/EMUC1/AN6/OCFA/RB6 (io), 27 PGD1/EMUD1/AN7/RB7 (io), 28 VREF-/RA9 (io), 29 VREF+/RA10 (io), 30 AVDD (power), 31 AVSS (power), 32 AN8/RB8 (io), 33 AN9/RB9 (io), 34 AN10/RB10 (io), 35 AN11/RB11 (io), 36 VSS (power), 37 VDD (power), 38 TCK/RA1 (io), 39 ~{U2RTS}/RF13 (io), 40 ~{U2CTS}/RF12 (io), 41 AN12/RB12 (io), 42 AN13/RB13 (io), 43 AN14/RB14 (io), 44 AN15/OCFB/CN12/RB15 (io), 45 VSS (power), 46 VDD (power), 47 IC7/~{U1CTS}/CN20/RD14 (io), 48 IC8/~{U1RTS}/CN21/RD15 (io), 49 U2RX/CN17/RF4 (io), 50 U2TX/CN18/RF5 (io), 51 U1TX/RF3 (io), 52 U1RX/RF2 (io), 53 SDO1/RF8 (io), 54 SDI1/RF7 (io), 55 SCK1/INT0/RF6 (io), 56 SDA1/RG3 (io), 57 SCL1/RG2 (io), 58 SCL2/RA2 (io), 59 SDA2/RA3 (io), 60 TDI/RA4 (io), 61 TDO/RA5 (io), 62 VDD (power), 63 OSC1/CLKIN/RC12 (io), 64 OSC2/CLKO/RC15 (io), 65 VSS (power), 66 INT3/RA14 (io), 67 INT4/RA15 (io), 68 IC1/RD8 (io), 69 IC2/RD9 (io), 70 IC3/RD10 (io), 71 IC4/RD11 (io), 72 OC1/RD0 (io), 73 PGD2/EMUD2/SOSCI/CN1/RC13 (io), 74 PGC2/EMUC2/SOSCO/T1CK/CN0/RC14 (io), 75 VSS (power), 76 OC2/RD1 (io), 77 OC3/RD2 (io), 78 OC4/RD3 (io), 79 IC5/RD12 (io), 80 IC6/CN19/RD13 (io), 81 OC5/CN13/RD4 (io), 82 OC6/CN14/RD5 (io), 83 OC7/CN15/RD6 (io), 84 OC8/UPDN/CN16/RD7 (io), 85 VCAP/VDDCORE (power), 86 VDD (power), 87 C1RX/RF0 (io), 88 C1TX/RF1 (io), 89 C2TX/RG1 (io), 90 C2RX/RG0 (io), 91 AN22/CN22/RA6 (io), 92 AN23/CN23/RA7 (io), 93 PWM1L/RE0 (io), 94 PWM1H/RE1 (io), 95 RG14 (io), 96 RG12 (io), 97 RG13 (io), 98 PWM2L/RE2 (io), 99 PWM2H/RE3 (io), 100 PWM3L/RE4 (io)

## DSPIC33FJ128MC710A-E/PF
designator U?
High-Performance 16-bit Digital Signal Controller, 128 KB Flash, 16 KB RAM , 100-PinTQFP, Extended High Temperature; Manufacturer: Microchip; PartNumber: DSPIC33FJ128MC710A-E/PF; DatasheetVersion: revB, Oct-2009; PackageVersion: revBB, Aug-2009; PackageReference: TQFP-PF100; PackageDescription: 100-Lead Thin Plastic Quad Flat Pack (PF) - 14x14x1mm Body, 2.00mm [TQFP]; Supplier 1: Digi-Key; Supplier Part Number 1: DSPIC33FJ128MC710A-E/PF-ND; Supplier 2: Mouser; Supplier Part Number 2: 579-FJ128MC710A-E/PF; Mounting Technology: Surface Mount; ComponentLink1Description: Manufacturer URL; ComponentLink1URL: http://www.microchip.com/; ComponentLink2Description: Datasheet; ComponentLink2URL: http://ww1.microchip.com/downloads/en/DeviceDoc/70594B.pdf; ComponentLink3Description: Package Specification; ComponentLink3URL: http://www.microchip.com/stellent/groups/techpub_sg/documents/packagingspec/en012702.pdf
footprint TQFP-PF100_N (Thin QFP, 100-Leads, Body 14x14mm, Pitch 0.5mm, IPC Medium Density)
footprint TQFP-PF100_L (Thin QFP, 100-Leads, Body 14x14mm, Pitch 0.5mm, IPC High Density)
footprint TQFP-PF100_M (Thin QFP, 100-Leads, Body 14x14mm, Pitch 0.5mm, IPC Low Density)
pins: 1 RG15 (io), 2 VDD (power), 3 PWM3H/RE5 (io), 4 PWM4L/RE6 (io), 5 PWM4H/RE7 (io), 6 AN16/T2CK/T7CK/RC1 (io), 7 AN17/T3CK/T6CK/RC2 (io), 8 AN18/T4CK/T9CK/RC3 (io), 9 AN19/T5CK/T8CK/RC4 (io), 10 SCK2/CN8/RG6 (io), 11 SDI2/CN9/RG7 (io), 12 SDO2/CN10/RG8 (io), 13 ~{MCLR} (in), 14 ~{SS2}/CN11/RG9 (io), 15 VSS (power), 16 VDD (power), 17 TMS/RA0 (io), 18 AN20/~{FLTA}/INT1/RE8 (io), 19 AN21/~{FLTB}/INT2/RE9 (io), 20 AN5/QEB/CN7/RB5 (io), 21 AN4/QEA/CN6/RB4 (io), 22 AN3/INDX/CN5/RB3 (io), 23 AN2/~{SS1}/CN4/RB2 (io), 24 PGEC3/AN1/CN3/RB1 (io), 25 PGED3/AN0/CN2/RB0 (io), 26 PGEC1/AN6/OCFA/RB6 (io), 27 PGED1/AN7/RB7 (io), 28 VREF-/RA9 (io), 29 VREF+/RA10 (io), 30 AVDD (power), 31 AVSS (power), 32 AN8/RB8 (io), 33 AN9/RB9 (io), 34 AN10/RB10 (io), 35 AN11/RB11 (io), 36 VSS (power), 37 VDD (power), 38 TCK/RA1 (io), 39 ~{U2RTS}/RF13 (io), 40 ~{U2CTS}/RF12 (io), 41 AN12/RB12 (io), 42 AN13/RB13 (io), 43 AN14/RB14 (io), 44 AN15/OCFB/CN12/RB15 (io), 45 VSS (power), 46 VDD (power), 47 IC7/~{U1CTS}/CN20/RD14 (io), 48 IC8/~{U1RTS}/CN21/RD15 (io), 49 U2RX/CN17/RF4 (io), 50 U2TX/CN18/RF5 (io), 51 U1TX/RF3 (io), 52 U1RX/RF2 (io), 53 SDO1/RF8 (io), 54 SDI1/RF7 (io), 55 SCK1/INT0/RF6 (io), 56 SDA1/RG3 (io), 57 SCL1/RG2 (io), 58 SCL2/RA2 (io), 59 SDA2/RA3 (io), 60 TDI/RA4 (io), 61 TDO/RA5 (io), 62 VDD (power), 63 OSC1/CLKIN/RC12 (io), 64 OSC2/CLKO/RC15 (io), 65 VSS (power), 66 INT3/RA14 (io), 67 INT4/RA15 (io), 68 IC1/RD8 (io), 69 IC2/RD9 (io), 70 IC3/RD10 (io), 71 IC4/RD11 (io), 72 OC1/RD0 (io), 73 PGED2/SOSCI/CN1/RC13 (io), 74 PGEC2/SOSCO/T1CK/CN0/RC14 (io), 75 VSS (power), 76 OC2/RD1 (io), 77 OC3/RD2 (io), 78 OC4/RD3 (io), 79 IC5/RD12 (io), 80 IC6/CN19/RD13 (io), 81 OC5/CN13/RD4 (io), 82 OC6/CN14/RD5 (io), 83 OC7/CN15/RD6 (io), 84 OC8/UPDN/CN16/RD7 (io), 85 VCAP/VDDCORE (power), 86 VDD (power), 87 C1RX/RF0 (io), 88 C1TX/RF1 (io), 89 C2TX/RG1 (io), 90 C2RX/RG0 (io), 91 AN22/CN22/RA6 (io), 92 AN23/CN23/RA7 (io), 93 PWM1L/RE0 (io), 94 PWM1H/RE1 (io), 95 RG14 (io), 96 RG12 (io), 97 RG13 (io), 98 PWM2L/RE2 (io), 99 PWM2H/RE3 (io), 100 PWM3L/RE4 (io)

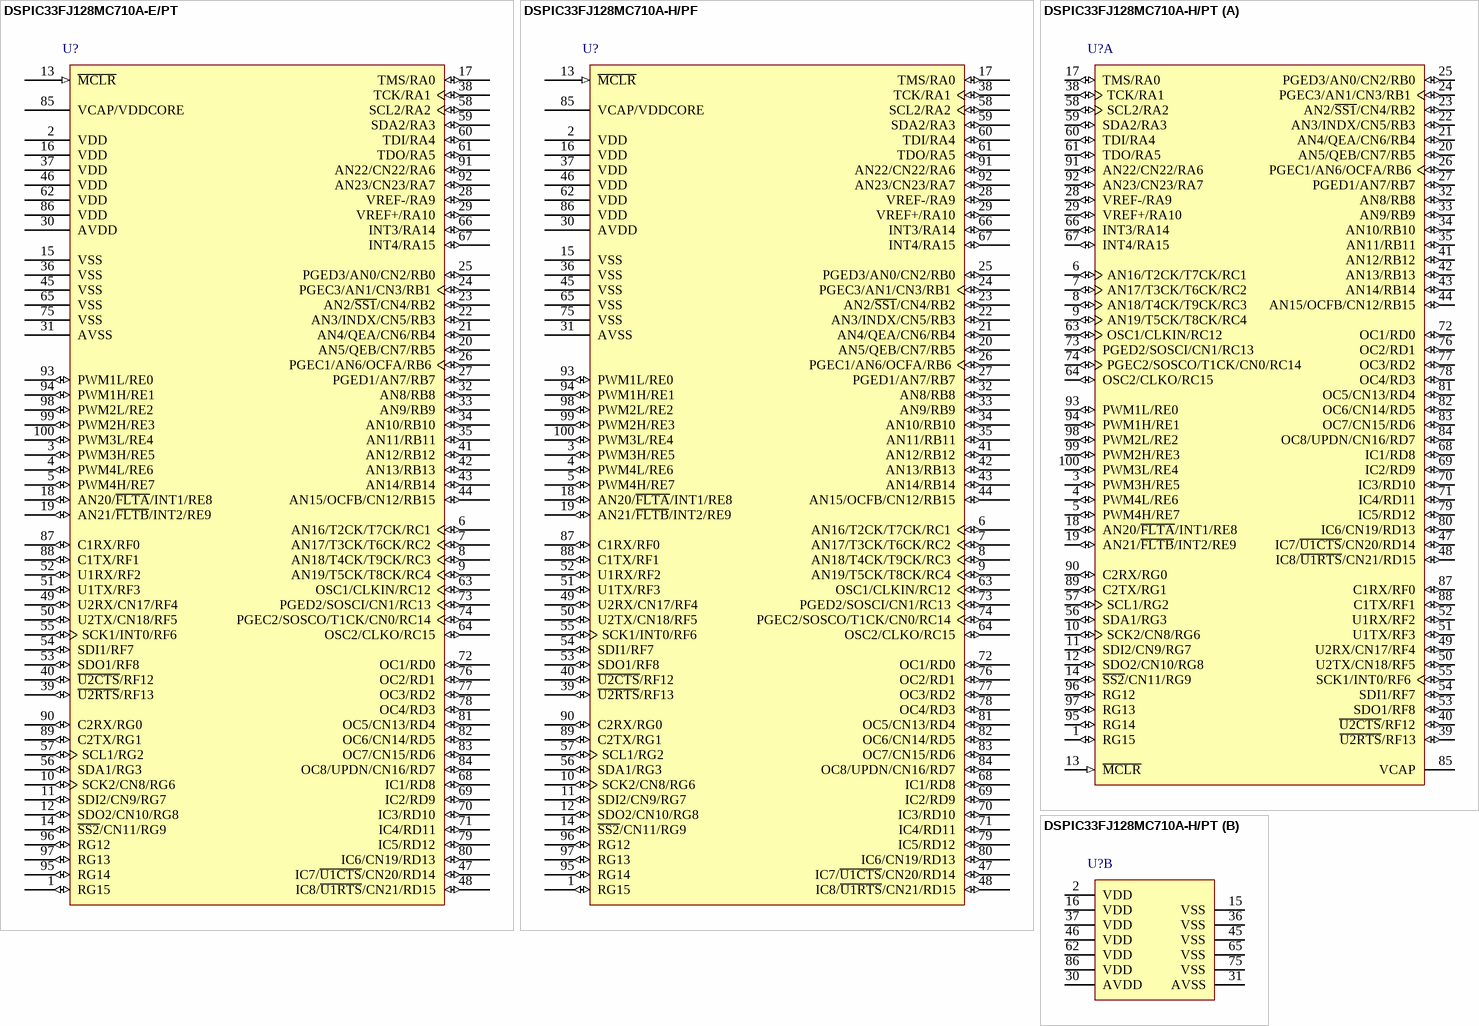
[diagram p135: symbols DSPIC33FJ128MC710A-E/PT to DSPIC33FJ128MC710A-H/PT]

## DSPIC33FJ128MC710A-E/PT
designator U?
High-Performance 16-bit Digital Signal Controller, 128 KB Flash, 16 KB RAM , 100-Pin TQFP, Extended High Temperature; Manufacturer: Microchip; PartNumber: DSPIC33FJ128MC710A-E/PT; DatasheetVersion: revB, Oct-2009; PackageVersion: revBB, Aug-2009; PackageReference: TQFP-PT100; PackageDescription: 100-Lead Plastic Thin Quad Flatpack (PT) - 12x12x1mm Body, 2.00mm [TQFP]; Supplier 1: Digi-Key; Supplier Part Number 1: DSPIC33FJ128MC710A-E/PT-ND; Supplier 2: Mouser; Supplier Part Number 2: 579-FJ128MC710A-E/PT; Mounting Technology: Surface Mount; ComponentLink1Description: Manufacturer URL; ComponentLink1URL: http://www.microchip.com/; ComponentLink2Description: Datasheet; ComponentLink2URL: http://ww1.microchip.com/downloads/en/DeviceDoc/70594B.pdf; ComponentLink3Description: Package Specification; ComponentLink3URL: http://www.microchip.com/stellent/groups/techpub_sg/documents/packagingspec/en012702.pdf
footprint TQFP-PT100_N (Thin QFP, 100-Leads, Body 12x12mm, Pitch 0.4mm, IPC Medium Density)
footprint TQFP-PT100_L (Thin QFP, 100-Leads, Body 12x12mm, Pitch 0.4mm, IPC High Density)
footprint TQFP-PT100_M (Thin QFP, 100-Leads, Body 12x12mm, Pitch 0.4mm, IPC Low Density)
pins: 1 RG15 (io), 2 VDD (power), 3 PWM3H/RE5 (io), 4 PWM4L/RE6 (io), 5 PWM4H/RE7 (io), 6 AN16/T2CK/T7CK/RC1 (io), 7 AN17/T3CK/T6CK/RC2 (io), 8 AN18/T4CK/T9CK/RC3 (io), 9 AN19/T5CK/T8CK/RC4 (io), 10 SCK2/CN8/RG6 (io), 11 SDI2/CN9/RG7 (io), 12 SDO2/CN10/RG8 (io), 13 ~{MCLR} (in), 14 ~{SS2}/CN11/RG9 (io), 15 VSS (power), 16 VDD (power), 17 TMS/RA0 (io), 18 AN20/~{FLTA}/INT1/RE8 (io), 19 AN21/~{FLTB}/INT2/RE9 (io), 20 AN5/QEB/CN7/RB5 (io), 21 AN4/QEA/CN6/RB4 (io), 22 AN3/INDX/CN5/RB3 (io), 23 AN2/~{SS1}/CN4/RB2 (io), 24 PGEC3/AN1/CN3/RB1 (io), 25 PGED3/AN0/CN2/RB0 (io), 26 PGEC1/AN6/OCFA/RB6 (io), 27 PGED1/AN7/RB7 (io), 28 VREF-/RA9 (io), 29 VREF+/RA10 (io), 30 AVDD (power), 31 AVSS (power), 32 AN8/RB8 (io), 33 AN9/RB9 (io), 34 AN10/RB10 (io), 35 AN11/RB11 (io), 36 VSS (power), 37 VDD (power), 38 TCK/RA1 (io), 39 ~{U2RTS}/RF13 (io), 40 ~{U2CTS}/RF12 (io), 41 AN12/RB12 (io), 42 AN13/RB13 (io), 43 AN14/RB14 (io), 44 AN15/OCFB/CN12/RB15 (io), 45 VSS (power), 46 VDD (power), 47 IC7/~{U1CTS}/CN20/RD14 (io), 48 IC8/~{U1RTS}/CN21/RD15 (io), 49 U2RX/CN17/RF4 (io), 50 U2TX/CN18/RF5 (io), 51 U1TX/RF3 (io), 52 U1RX/RF2 (io), 53 SDO1/RF8 (io), 54 SDI1/RF7 (io), 55 SCK1/INT0/RF6 (io), 56 SDA1/RG3 (io), 57 SCL1/RG2 (io), 58 SCL2/RA2 (io), 59 SDA2/RA3 (io), 60 TDI/RA4 (io), 61 TDO/RA5 (io), 62 VDD (power), 63 OSC1/CLKIN/RC12 (io), 64 OSC2/CLKO/RC15 (io), 65 VSS (power), 66 INT3/RA14 (io), 67 INT4/RA15 (io), 68 IC1/RD8 (io), 69 IC2/RD9 (io), 70 IC3/RD10 (io), 71 IC4/RD11 (io), 72 OC1/RD0 (io), 73 PGED2/SOSCI/CN1/RC13 (io), 74 PGEC2/SOSCO/T1CK/CN0/RC14 (io), 75 VSS (power), 76 OC2/RD1 (io), 77 OC3/RD2 (io), 78 OC4/RD3 (io), 79 IC5/RD12 (io), 80 IC6/CN19/RD13 (io), 81 OC5/CN13/RD4 (io), 82 OC6/CN14/RD5 (io), 83 OC7/CN15/RD6 (io), 84 OC8/UPDN/CN16/RD7 (io), 85 VCAP/VDDCORE (power), 86 VDD (power), 87 C1RX/RF0 (io), 88 C1TX/RF1 (io), 89 C2TX/RG1 (io), 90 C2RX/RG0 (io), 91 AN22/CN22/RA6 (io), 92 AN23/CN23/RA7 (io), 93 PWM1L/RE0 (io), 94 PWM1H/RE1 (io), 95 RG14 (io), 96 RG12 (io), 97 RG13 (io), 98 PWM2L/RE2 (io), 99 PWM2H/RE3 (io), 100 PWM3L/RE4 (io)

## DSPIC33FJ128MC710A-H/PF
designator U?
High-Performance 16-bit Digital Signal Controller, 128 KB Flash, 16 KB RAM , 100-PinTQFP, High Temperature; Manufacturer: Microchip; PartNumber: DSPIC33FJ128MC710A-H/PF; DatasheetVersion: revB, Oct-2009; PackageVersion: revBB, Aug-2009; PackageReference: TQFP-PF100; PackageDescription: 100-Lead Thin Plastic Quad Flat Pack (PF) - 14x14x1mm Body, 2.00mm [TQFP]; Supplier 1: Digi-Key; Supplier Part Number 1: DSPIC33FJ128MC710A-H/PF-ND; Supplier 2: Mouser; Supplier Part Number 2: 579-33FJ128MC710AHPF; Mounting Technology: Surface Mount; ComponentLink1Description: Manufacturer URL; ComponentLink1URL: http://www.microchip.com/; ComponentLink2Description: Datasheet; ComponentLink2URL: http://ww1.microchip.com/downloads/en/DeviceDoc/70594B.pdf; ComponentLink3Description: Package Specification; ComponentLink3URL: http://www.microchip.com/stellent/groups/techpub_sg/documents/packagingspec/en012702.pdf
footprint TQFP-PF100_N (Thin QFP, 100-Leads, Body 14x14mm, Pitch 0.5mm, IPC Medium Density)
footprint TQFP-PF100_L (Thin QFP, 100-Leads, Body 14x14mm, Pitch 0.5mm, IPC High Density)
footprint TQFP-PF100_M (Thin QFP, 100-Leads, Body 14x14mm, Pitch 0.5mm, IPC Low Density)
pins: 1 RG15 (io), 2 VDD (power), 3 PWM3H/RE5 (io), 4 PWM4L/RE6 (io), 5 PWM4H/RE7 (io), 6 AN16/T2CK/T7CK/RC1 (io), 7 AN17/T3CK/T6CK/RC2 (io), 8 AN18/T4CK/T9CK/RC3 (io), 9 AN19/T5CK/T8CK/RC4 (io), 10 SCK2/CN8/RG6 (io), 11 SDI2/CN9/RG7 (io), 12 SDO2/CN10/RG8 (io), 13 ~{MCLR} (in), 14 ~{SS2}/CN11/RG9 (io), 15 VSS (power), 16 VDD (power), 17 TMS/RA0 (io), 18 AN20/~{FLTA}/INT1/RE8 (io), 19 AN21/~{FLTB}/INT2/RE9 (io), 20 AN5/QEB/CN7/RB5 (io), 21 AN4/QEA/CN6/RB4 (io), 22 AN3/INDX/CN5/RB3 (io), 23 AN2/~{SS1}/CN4/RB2 (io), 24 PGEC3/AN1/CN3/RB1 (io), 25 PGED3/AN0/CN2/RB0 (io), 26 PGEC1/AN6/OCFA/RB6 (io), 27 PGED1/AN7/RB7 (io), 28 VREF-/RA9 (io), 29 VREF+/RA10 (io), 30 AVDD (power), 31 AVSS (power), 32 AN8/RB8 (io), 33 AN9/RB9 (io), 34 AN10/RB10 (io), 35 AN11/RB11 (io), 36 VSS (power), 37 VDD (power), 38 TCK/RA1 (io), 39 ~{U2RTS}/RF13 (io), 40 ~{U2CTS}/RF12 (io), 41 AN12/RB12 (io), 42 AN13/RB13 (io), 43 AN14/RB14 (io), 44 AN15/OCFB/CN12/RB15 (io), 45 VSS (power), 46 VDD (power), 47 IC7/~{U1CTS}/CN20/RD14 (io), 48 IC8/~{U1RTS}/CN21/RD15 (io), 49 U2RX/CN17/RF4 (io), 50 U2TX/CN18/RF5 (io), 51 U1TX/RF3 (io), 52 U1RX/RF2 (io), 53 SDO1/RF8 (io), 54 SDI1/RF7 (io), 55 SCK1/INT0/RF6 (io), 56 SDA1/RG3 (io), 57 SCL1/RG2 (io), 58 SCL2/RA2 (io), 59 SDA2/RA3 (io), 60 TDI/RA4 (io), 61 TDO/RA5 (io), 62 VDD (power), 63 OSC1/CLKIN/RC12 (io), 64 OSC2/CLKO/RC15 (io), 65 VSS (power), 66 INT3/RA14 (io), 67 INT4/RA15 (io), 68 IC1/RD8 (io), 69 IC2/RD9 (io), 70 IC3/RD10 (io), 71 IC4/RD11 (io), 72 OC1/RD0 (io), 73 PGED2/SOSCI/CN1/RC13 (io), 74 PGEC2/SOSCO/T1CK/CN0/RC14 (io), 75 VSS (power), 76 OC2/RD1 (io), 77 OC3/RD2 (io), 78 OC4/RD3 (io), 79 IC5/RD12 (io), 80 IC6/CN19/RD13 (io), 81 OC5/CN13/RD4 (io), 82 OC6/CN14/RD5 (io), 83 OC7/CN15/RD6 (io), 84 OC8/UPDN/CN16/RD7 (io), 85 VCAP/VDDCORE (power), 86 VDD (power), 87 C1RX/RF0 (io), 88 C1TX/RF1 (io), 89 C2TX/RG1 (io), 90 C2RX/RG0 (io), 91 AN22/CN22/RA6 (io), 92 AN23/CN23/RA7 (io), 93 PWM1L/RE0 (io), 94 PWM1H/RE1 (io), 95 RG14 (io), 96 RG12 (io), 97 RG13 (io), 98 PWM2L/RE2 (io), 99 PWM2H/RE3 (io), 100 PWM3L/RE4 (io)

## DSPIC33FJ128MC710A-H/PT
designator U?
16-Bit Digital Signal Controller with Motor Control and Advanced Analog, 40 MIPS, 85 I/O, GPIO, -40 to >125 degC, 100-pin TQFP (PT100), Tray; Manufacturer: Microchip; PartNumber: DSPIC33FJ128MC710A-H/PT; DatasheetVersion: Rev. D; PackageVersion: C04-100B; PackageReference: TQFP-PT100; PackageDescription: 100-Lead Plastic Thin Quad Flatpack, 12 x 12 mm Body, 0.4 mm Pitch; Supplier 1: Digi-Key; Supplier Part Number 1: DSPIC33FJ128MC710A-H/PT-ND; Supplier 2: Mouser; Supplier Part Number 2: 579-33FJ128MC710AHPT; Mounting Technology: Surface Mount; ComponentLink1Description: Manufacturer URL; ComponentLink1URL: http://www.microchip.com; ComponentLink2Description: Datasheet; ComponentLink2URL: http://ww1.microchip.com/downloads/en/DeviceDoc/70594d.pdf; ComponentLink3Description: Package Specification; ComponentLink3URL: http://www.microchip.com/stellent/groups/techpub_sg/documents/packagingspec/en012702.pdf; ComponentLink4Description: Product URL; ComponentLink4URL: http://www.microchip.com/dsPIC33FJ128MC710A
footprint MCHP-TQFP-PT100_N (QFP, 100-Leads, Body 12x12mm, Pitch 0.4mm, IPC Medium Density)
footprint MCHP-TQFP-PT100_L (QFP, 100-Leads, Body 12x12mm, Pitch 0.4mm, IPC High Density)
footprint MCHP-TQFP-PT100_M (TQFP, 100-Leads, Body 12x12mm, Pitch 0.4mm, IPC Low Density)
part A pins: 1 RG15 (io) "PORTG is a bidirectional I/O port.", 3 PWM3H/RE5 (io), 4 PWM4L/RE6 (io), 5 PWM4H/RE7 (io), 6 AN16/T2CK/T7CK/RC1 (io), 7 AN17/T3CK/T6CK/RC2 (io), 8 AN18/T4CK/T9CK/RC3 (io), 9 AN19/T5CK/T8CK/RC4 (io), 10 SCK2/CN8/RG6 (io), 11 SDI2/CN9/RG7 (io), 12 SDO2/CN10/RG8 (io), 13 ~{MCLR} (in) "Master Clear (Reset) input. This pin is an active-low Reset to the device.", 14 ~{SS2}/CN11/RG9 (io), 17 TMS/RA0 (io), 18 AN20/~{FLTA}/INT1/RE8 (io), 19 AN21/~{FLTB}/INT2/RE9 (io), 20 AN5/QEB/CN7/RB5 (io), 21 AN4/QEA/CN6/RB4 (io), 22 AN3/INDX/CN5/RB3 (io), 23 AN2/~{SS1}/CN4/RB2 (io), 24 PGEC3/AN1/CN3/RB1 (io), 25 PGED3/AN0/CN2/RB0 (io), 26 PGEC1/AN6/OCFA/RB6 (io), 27 PGED1/AN7/RB7 (io), 28 VREF-/RA9 (io), 29 VREF+/RA10 (io), 32 AN8/RB8 (io), 33 AN9/RB9 (io), 34 AN10/RB10 (io), 35 AN11/RB11 (io), 38 TCK/RA1 (io), 39 ~{U2RTS}/RF13 (io), 40 ~{U2CTS}/RF12 (io), 41 AN12/RB12 (io), 42 AN13/RB13 (io), 43 AN14/RB14 (io), 44 AN15/OCFB/CN12/RB15 (io), 47 IC7/~{U1CTS}/CN20/RD14 (io), 48 IC8/~{U1RTS}/CN21/RD15 (io), 49 U2RX/CN17/RF4 (io), 50 U2TX/CN18/RF5 (io), 51 U1TX/RF3 (io), 52 U1RX/RF2 (io), 53 SDO1/RF8 (io), 54 SDI1/RF7 (io), 55 SCK1/INT0/RF6 (io), 56 SDA1/RG3 (io), 57 SCL1/RG2 (io), 58 SCL2/RA2 (io), 59 SDA2/RA3 (io), 60 TDI/RA4 (io), 61 TDO/RA5 (io), 63 OSC1/CLKIN/RC12 (io), 64 OSC2/CLKO/RC15 (io), 66 INT3/RA14 (io), 67 INT4/RA15 (io), 68 IC1/RD8 (io), 69 IC2/RD9 (io), 70 IC3/RD10 (io), 71 IC4/RD11 (io), 72 OC1/RD0 (io), 73 PGED2/SOSCI/CN1/RC13 (io), 74 PGEC2/SOSCO/T1CK/CN0/RC14 (io), 76 OC2/RD1 (io), 77 OC3/RD2 (io), 78 OC4/RD3 (io), 79 IC5/RD12 (io), 80 IC6/CN19/RD13 (io), 81 OC5/CN13/RD4 (io), 82 OC6/CN14/RD5 (io), 83 OC7/CN15/RD6 (io), 84 OC8/UPDN/CN16/RD7 (io), 85 VCAP "CPU logic filter capacitor connection.", 87 C1RX/RF0 (io), 88 C1TX/RF1 (io), 89 C2TX/RG1 (io), 90 C2RX/RG0 (io), 91 AN22/CN22/RA6 (io), 92 AN23/CN23/RA7 (io), 93 PWM1L/RE0 (io), 94 PWM1H/RE1 (io), 95 RG14 (io) "PORTG is a bidirectional I/O port.", 96 RG12 (io) "PORTG is a bidirectional I/O port.", 97 RG13 (io) "PORTG is a bidirectional I/O port.", 98 PWM2L/RE2 (io), 99 PWM2H/RE3 (io), 100 PWM3L/RE4 (io)
part B pins: 2 VDD (power) "Positive supply for peripheral logic and I/O pins.", 15 VSS (power) "Ground reference for logic and I/O pins.", 16 VDD (power) "Positive supply for peripheral logic and I/O pins.", 30 AVDD (power) "Positive supply for analog modules. This pin must be connected at all times.", 31 AVSS (power) "Ground reference for analog modules.", 36 VSS (power) "Ground reference for logic and I/O pins.", 37 VDD (power) "Positive supply for peripheral logic and I/O pins.", 45 VSS (power) "Ground reference for logic and I/O pins.", 46 VDD (power) "Positive supply for peripheral logic and I/O pins.", 62 VDD (power) "Positive supply for peripheral logic and I/O pins.", 65 VSS (power) "Ground reference for logic and I/O pins.", 75 VSS (power) "Ground reference for logic and I/O pins.", 86 VDD (power) "Positive supply for peripheral logic and I/O pins."

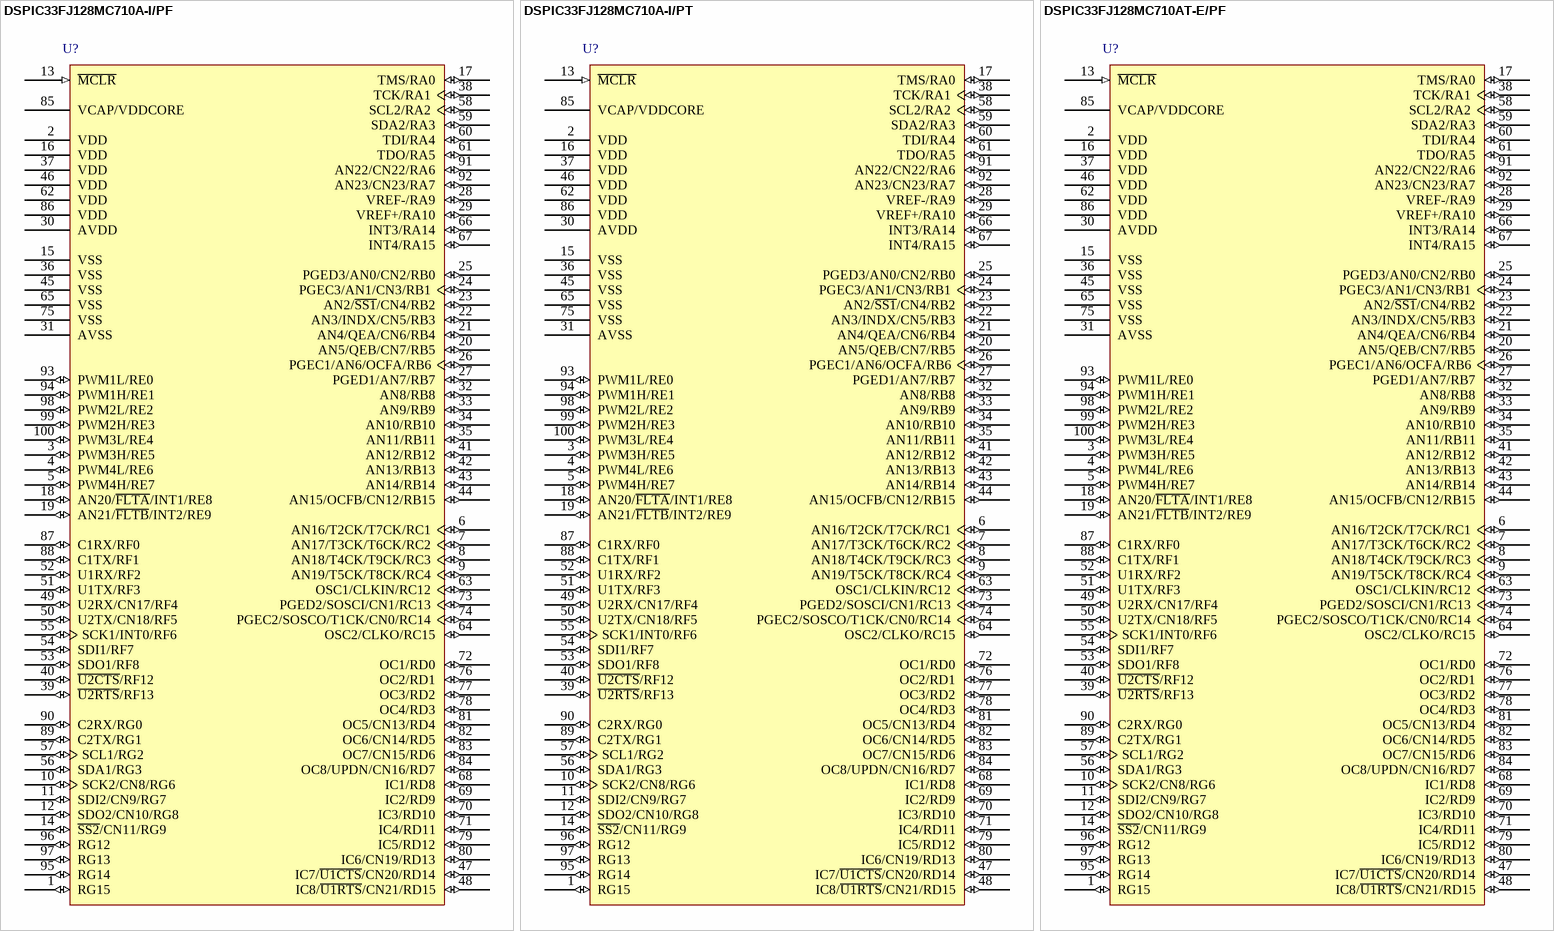
[diagram p136: symbols DSPIC33FJ128MC710A-I/PF to DSPIC33FJ128MC710AT-E/PF]

## DSPIC33FJ128MC710A-I/PF
designator U?
High-Performance 16-bit Digital Signal Controller, 128 KB Flash, 16 KB RAM , 100-PinTQFP, Industrial Temperature; Manufacturer: Microchip; PartNumber: DSPIC33FJ128MC710A-I/PF; DatasheetVersion: revB, Oct-2009; PackageVersion: revBB, Aug-2009; PackageReference: TQFP-PF100; PackageDescription: 100-Lead Thin Plastic Quad Flat Pack (PF) - 14x14x1mm Body, 2.00mm [TQFP]; Supplier 1: Digi-Key; Supplier Part Number 1: DSPIC33FJ128MC710A-I/PF-ND; Supplier 2: Mouser; Supplier Part Number 2: 579-FJ128MC710A-I/PF; Mounting Technology: Surface Mount; ComponentLink1Description: Manufacturer URL; ComponentLink1URL: http://www.microchip.com/; ComponentLink2Description: Datasheet; ComponentLink2URL: http://ww1.microchip.com/downloads/en/DeviceDoc/70594B.pdf; ComponentLink3Description: Package Specification; ComponentLink3URL: http://www.microchip.com/stellent/groups/techpub_sg/documents/packagingspec/en012702.pdf
footprint TQFP-PF100_N (Thin QFP, 100-Leads, Body 14x14mm, Pitch 0.5mm, IPC Medium Density)
footprint TQFP-PF100_L (Thin QFP, 100-Leads, Body 14x14mm, Pitch 0.5mm, IPC High Density)
footprint TQFP-PF100_M (Thin QFP, 100-Leads, Body 14x14mm, Pitch 0.5mm, IPC Low Density)
pins: 1 RG15 (io), 2 VDD (power), 3 PWM3H/RE5 (io), 4 PWM4L/RE6 (io), 5 PWM4H/RE7 (io), 6 AN16/T2CK/T7CK/RC1 (io), 7 AN17/T3CK/T6CK/RC2 (io), 8 AN18/T4CK/T9CK/RC3 (io), 9 AN19/T5CK/T8CK/RC4 (io), 10 SCK2/CN8/RG6 (io), 11 SDI2/CN9/RG7 (io), 12 SDO2/CN10/RG8 (io), 13 ~{MCLR} (in), 14 ~{SS2}/CN11/RG9 (io), 15 VSS (power), 16 VDD (power), 17 TMS/RA0 (io), 18 AN20/~{FLTA}/INT1/RE8 (io), 19 AN21/~{FLTB}/INT2/RE9 (io), 20 AN5/QEB/CN7/RB5 (io), 21 AN4/QEA/CN6/RB4 (io), 22 AN3/INDX/CN5/RB3 (io), 23 AN2/~{SS1}/CN4/RB2 (io), 24 PGEC3/AN1/CN3/RB1 (io), 25 PGED3/AN0/CN2/RB0 (io), 26 PGEC1/AN6/OCFA/RB6 (io), 27 PGED1/AN7/RB7 (io), 28 VREF-/RA9 (io), 29 VREF+/RA10 (io), 30 AVDD (power), 31 AVSS (power), 32 AN8/RB8 (io), 33 AN9/RB9 (io), 34 AN10/RB10 (io), 35 AN11/RB11 (io), 36 VSS (power), 37 VDD (power), 38 TCK/RA1 (io), 39 ~{U2RTS}/RF13 (io), 40 ~{U2CTS}/RF12 (io), 41 AN12/RB12 (io), 42 AN13/RB13 (io), 43 AN14/RB14 (io), 44 AN15/OCFB/CN12/RB15 (io), 45 VSS (power), 46 VDD (power), 47 IC7/~{U1CTS}/CN20/RD14 (io), 48 IC8/~{U1RTS}/CN21/RD15 (io), 49 U2RX/CN17/RF4 (io), 50 U2TX/CN18/RF5 (io), 51 U1TX/RF3 (io), 52 U1RX/RF2 (io), 53 SDO1/RF8 (io), 54 SDI1/RF7 (io), 55 SCK1/INT0/RF6 (io), 56 SDA1/RG3 (io), 57 SCL1/RG2 (io), 58 SCL2/RA2 (io), 59 SDA2/RA3 (io), 60 TDI/RA4 (io), 61 TDO/RA5 (io), 62 VDD (power), 63 OSC1/CLKIN/RC12 (io), 64 OSC2/CLKO/RC15 (io), 65 VSS (power), 66 INT3/RA14 (io), 67 INT4/RA15 (io), 68 IC1/RD8 (io), 69 IC2/RD9 (io), 70 IC3/RD10 (io), 71 IC4/RD11 (io), 72 OC1/RD0 (io), 73 PGED2/SOSCI/CN1/RC13 (io), 74 PGEC2/SOSCO/T1CK/CN0/RC14 (io), 75 VSS (power), 76 OC2/RD1 (io), 77 OC3/RD2 (io), 78 OC4/RD3 (io), 79 IC5/RD12 (io), 80 IC6/CN19/RD13 (io), 81 OC5/CN13/RD4 (io), 82 OC6/CN14/RD5 (io), 83 OC7/CN15/RD6 (io), 84 OC8/UPDN/CN16/RD7 (io), 85 VCAP/VDDCORE (power), 86 VDD (power), 87 C1RX/RF0 (io), 88 C1TX/RF1 (io), 89 C2TX/RG1 (io), 90 C2RX/RG0 (io), 91 AN22/CN22/RA6 (io), 92 AN23/CN23/RA7 (io), 93 PWM1L/RE0 (io), 94 PWM1H/RE1 (io), 95 RG14 (io), 96 RG12 (io), 97 RG13 (io), 98 PWM2L/RE2 (io), 99 PWM2H/RE3 (io), 100 PWM3L/RE4 (io)

## DSPIC33FJ128MC710A-I/PT
designator U?
High-Performance 16-bit Digital Signal Controller, 128 KB Flash, 16 KB RAM , 100-Pin TQFP, Industrial Temperature; Manufacturer: Microchip; PartNumber: DSPIC33FJ128MC710A-I/PT; DatasheetVersion: revB, Oct-2009; PackageVersion: revBB, Aug-2009; PackageReference: TQFP-PT100; PackageDescription: 100-Lead Plastic Thin Quad Flatpack (PT) - 12x12x1mm Body, 2.00mm [TQFP]; Supplier 1: Digi-Key; Supplier Part Number 1: DSPIC33FJ128MC710A-I/PT-ND; Supplier 2: Newark; Supplier Part Number 2: 45P4641; Supplier 3: Mouser; Supplier Part Number 3: 579-FJ128MC710A-I/PT; Mounting Technology: Surface Mount; ComponentLink1Description: Manufacturer URL; ComponentLink1URL: http://www.microchip.com/; ComponentLink2Description: Datasheet; ComponentLink2URL: http://ww1.microchip.com/downloads/en/DeviceDoc/70594B.pdf; ComponentLink3Description: Package Specification; ComponentLink3URL: http://www.microchip.com/stellent/groups/techpub_sg/documents/packagingspec/en012702.pdf
footprint TQFP-PT100_N (Thin QFP, 100-Leads, Body 12x12mm, Pitch 0.4mm, IPC Medium Density)
footprint TQFP-PT100_L (Thin QFP, 100-Leads, Body 12x12mm, Pitch 0.4mm, IPC High Density)
footprint TQFP-PT100_M (Thin QFP, 100-Leads, Body 12x12mm, Pitch 0.4mm, IPC Low Density)
pins: 1 RG15 (io), 2 VDD (power), 3 PWM3H/RE5 (io), 4 PWM4L/RE6 (io), 5 PWM4H/RE7 (io), 6 AN16/T2CK/T7CK/RC1 (io), 7 AN17/T3CK/T6CK/RC2 (io), 8 AN18/T4CK/T9CK/RC3 (io), 9 AN19/T5CK/T8CK/RC4 (io), 10 SCK2/CN8/RG6 (io), 11 SDI2/CN9/RG7 (io), 12 SDO2/CN10/RG8 (io), 13 ~{MCLR} (in), 14 ~{SS2}/CN11/RG9 (io), 15 VSS (power), 16 VDD (power), 17 TMS/RA0 (io), 18 AN20/~{FLTA}/INT1/RE8 (io), 19 AN21/~{FLTB}/INT2/RE9 (io), 20 AN5/QEB/CN7/RB5 (io), 21 AN4/QEA/CN6/RB4 (io), 22 AN3/INDX/CN5/RB3 (io), 23 AN2/~{SS1}/CN4/RB2 (io), 24 PGEC3/AN1/CN3/RB1 (io), 25 PGED3/AN0/CN2/RB0 (io), 26 PGEC1/AN6/OCFA/RB6 (io), 27 PGED1/AN7/RB7 (io), 28 VREF-/RA9 (io), 29 VREF+/RA10 (io), 30 AVDD (power), 31 AVSS (power), 32 AN8/RB8 (io), 33 AN9/RB9 (io), 34 AN10/RB10 (io), 35 AN11/RB11 (io), 36 VSS (power), 37 VDD (power), 38 TCK/RA1 (io), 39 ~{U2RTS}/RF13 (io), 40 ~{U2CTS}/RF12 (io), 41 AN12/RB12 (io), 42 AN13/RB13 (io), 43 AN14/RB14 (io), 44 AN15/OCFB/CN12/RB15 (io), 45 VSS (power), 46 VDD (power), 47 IC7/~{U1CTS}/CN20/RD14 (io), 48 IC8/~{U1RTS}/CN21/RD15 (io), 49 U2RX/CN17/RF4 (io), 50 U2TX/CN18/RF5 (io), 51 U1TX/RF3 (io), 52 U1RX/RF2 (io), 53 SDO1/RF8 (io), 54 SDI1/RF7 (io), 55 SCK1/INT0/RF6 (io), 56 SDA1/RG3 (io), 57 SCL1/RG2 (io), 58 SCL2/RA2 (io), 59 SDA2/RA3 (io), 60 TDI/RA4 (io), 61 TDO/RA5 (io), 62 VDD (power), 63 OSC1/CLKIN/RC12 (io), 64 OSC2/CLKO/RC15 (io), 65 VSS (power), 66 INT3/RA14 (io), 67 INT4/RA15 (io), 68 IC1/RD8 (io), 69 IC2/RD9 (io), 70 IC3/RD10 (io), 71 IC4/RD11 (io), 72 OC1/RD0 (io), 73 PGED2/SOSCI/CN1/RC13 (io), 74 PGEC2/SOSCO/T1CK/CN0/RC14 (io), 75 VSS (power), 76 OC2/RD1 (io), 77 OC3/RD2 (io), 78 OC4/RD3 (io), 79 IC5/RD12 (io), 80 IC6/CN19/RD13 (io), 81 OC5/CN13/RD4 (io), 82 OC6/CN14/RD5 (io), 83 OC7/CN15/RD6 (io), 84 OC8/UPDN/CN16/RD7 (io), 85 VCAP/VDDCORE (power), 86 VDD (power), 87 C1RX/RF0 (io), 88 C1TX/RF1 (io), 89 C2TX/RG1 (io), 90 C2RX/RG0 (io), 91 AN22/CN22/RA6 (io), 92 AN23/CN23/RA7 (io), 93 PWM1L/RE0 (io), 94 PWM1H/RE1 (io), 95 RG14 (io), 96 RG12 (io), 97 RG13 (io), 98 PWM2L/RE2 (io), 99 PWM2H/RE3 (io), 100 PWM3L/RE4 (io)

## DSPIC33FJ128MC710AT-E/PF
designator U?
High-Performance 16-bit Digital Signal Controller, 128 KB Flash, 16 KB RAM , 100-PinTQFP, Extended High Temperature , Tape and Reel; Manufacturer: Microchip; PartNumber: DSPIC33FJ128MC710AT-E/PF; DatasheetVersion: revB, Oct-2009; PackageVersion: revBB, Aug-2009; PackageReference: TQFP-PF100; PackageDescription: 100-Lead Thin Plastic Quad Flat Pack (PF) - 14x14x1mm Body, 2.00mm [TQFP]; Mounting Technology: Surface Mount; ComponentLink1Description: Manufacturer URL; ComponentLink1URL: http://www.microchip.com/; ComponentLink2Description: Datasheet; ComponentLink2URL: http://ww1.microchip.com/downloads/en/DeviceDoc/70594B.pdf; ComponentLink3Description: Package Specification; ComponentLink3URL: http://www.microchip.com/stellent/groups/techpub_sg/documents/packagingspec/en012702.pdf
footprint TQFP-PF100_N (Thin QFP, 100-Leads, Body 14x14mm, Pitch 0.5mm, IPC Medium Density)
footprint TQFP-PF100_L (Thin QFP, 100-Leads, Body 14x14mm, Pitch 0.5mm, IPC High Density)
footprint TQFP-PF100_M (Thin QFP, 100-Leads, Body 14x14mm, Pitch 0.5mm, IPC Low Density)
pins: 1 RG15 (io), 2 VDD (power), 3 PWM3H/RE5 (io), 4 PWM4L/RE6 (io), 5 PWM4H/RE7 (io), 6 AN16/T2CK/T7CK/RC1 (io), 7 AN17/T3CK/T6CK/RC2 (io), 8 AN18/T4CK/T9CK/RC3 (io), 9 AN19/T5CK/T8CK/RC4 (io), 10 SCK2/CN8/RG6 (io), 11 SDI2/CN9/RG7 (io), 12 SDO2/CN10/RG8 (io), 13 ~{MCLR} (in), 14 ~{SS2}/CN11/RG9 (io), 15 VSS (power), 16 VDD (power), 17 TMS/RA0 (io), 18 AN20/~{FLTA}/INT1/RE8 (io), 19 AN21/~{FLTB}/INT2/RE9 (io), 20 AN5/QEB/CN7/RB5 (io), 21 AN4/QEA/CN6/RB4 (io), 22 AN3/INDX/CN5/RB3 (io), 23 AN2/~{SS1}/CN4/RB2 (io), 24 PGEC3/AN1/CN3/RB1 (io), 25 PGED3/AN0/CN2/RB0 (io), 26 PGEC1/AN6/OCFA/RB6 (io), 27 PGED1/AN7/RB7 (io), 28 VREF-/RA9 (io), 29 VREF+/RA10 (io), 30 AVDD (power), 31 AVSS (power), 32 AN8/RB8 (io), 33 AN9/RB9 (io), 34 AN10/RB10 (io), 35 AN11/RB11 (io), 36 VSS (power), 37 VDD (power), 38 TCK/RA1 (io), 39 ~{U2RTS}/RF13 (io), 40 ~{U2CTS}/RF12 (io), 41 AN12/RB12 (io), 42 AN13/RB13 (io), 43 AN14/RB14 (io), 44 AN15/OCFB/CN12/RB15 (io), 45 VSS (power), 46 VDD (power), 47 IC7/~{U1CTS}/CN20/RD14 (io), 48 IC8/~{U1RTS}/CN21/RD15 (io), 49 U2RX/CN17/RF4 (io), 50 U2TX/CN18/RF5 (io), 51 U1TX/RF3 (io), 52 U1RX/RF2 (io), 53 SDO1/RF8 (io), 54 SDI1/RF7 (io), 55 SCK1/INT0/RF6 (io), 56 SDA1/RG3 (io), 57 SCL1/RG2 (io), 58 SCL2/RA2 (io), 59 SDA2/RA3 (io), 60 TDI/RA4 (io), 61 TDO/RA5 (io), 62 VDD (power), 63 OSC1/CLKIN/RC12 (io), 64 OSC2/CLKO/RC15 (io), 65 VSS (power), 66 INT3/RA14 (io), 67 INT4/RA15 (io), 68 IC1/RD8 (io), 69 IC2/RD9 (io), 70 IC3/RD10 (io), 71 IC4/RD11 (io), 72 OC1/RD0 (io), 73 PGED2/SOSCI/CN1/RC13 (io), 74 PGEC2/SOSCO/T1CK/CN0/RC14 (io), 75 VSS (power), 76 OC2/RD1 (io), 77 OC3/RD2 (io), 78 OC4/RD3 (io), 79 IC5/RD12 (io), 80 IC6/CN19/RD13 (io), 81 OC5/CN13/RD4 (io), 82 OC6/CN14/RD5 (io), 83 OC7/CN15/RD6 (io), 84 OC8/UPDN/CN16/RD7 (io), 85 VCAP/VDDCORE (power), 86 VDD (power), 87 C1RX/RF0 (io), 88 C1TX/RF1 (io), 89 C2TX/RG1 (io), 90 C2RX/RG0 (io), 91 AN22/CN22/RA6 (io), 92 AN23/CN23/RA7 (io), 93 PWM1L/RE0 (io), 94 PWM1H/RE1 (io), 95 RG14 (io), 96 RG12 (io), 97 RG13 (io), 98 PWM2L/RE2 (io), 99 PWM2H/RE3 (io), 100 PWM3L/RE4 (io)

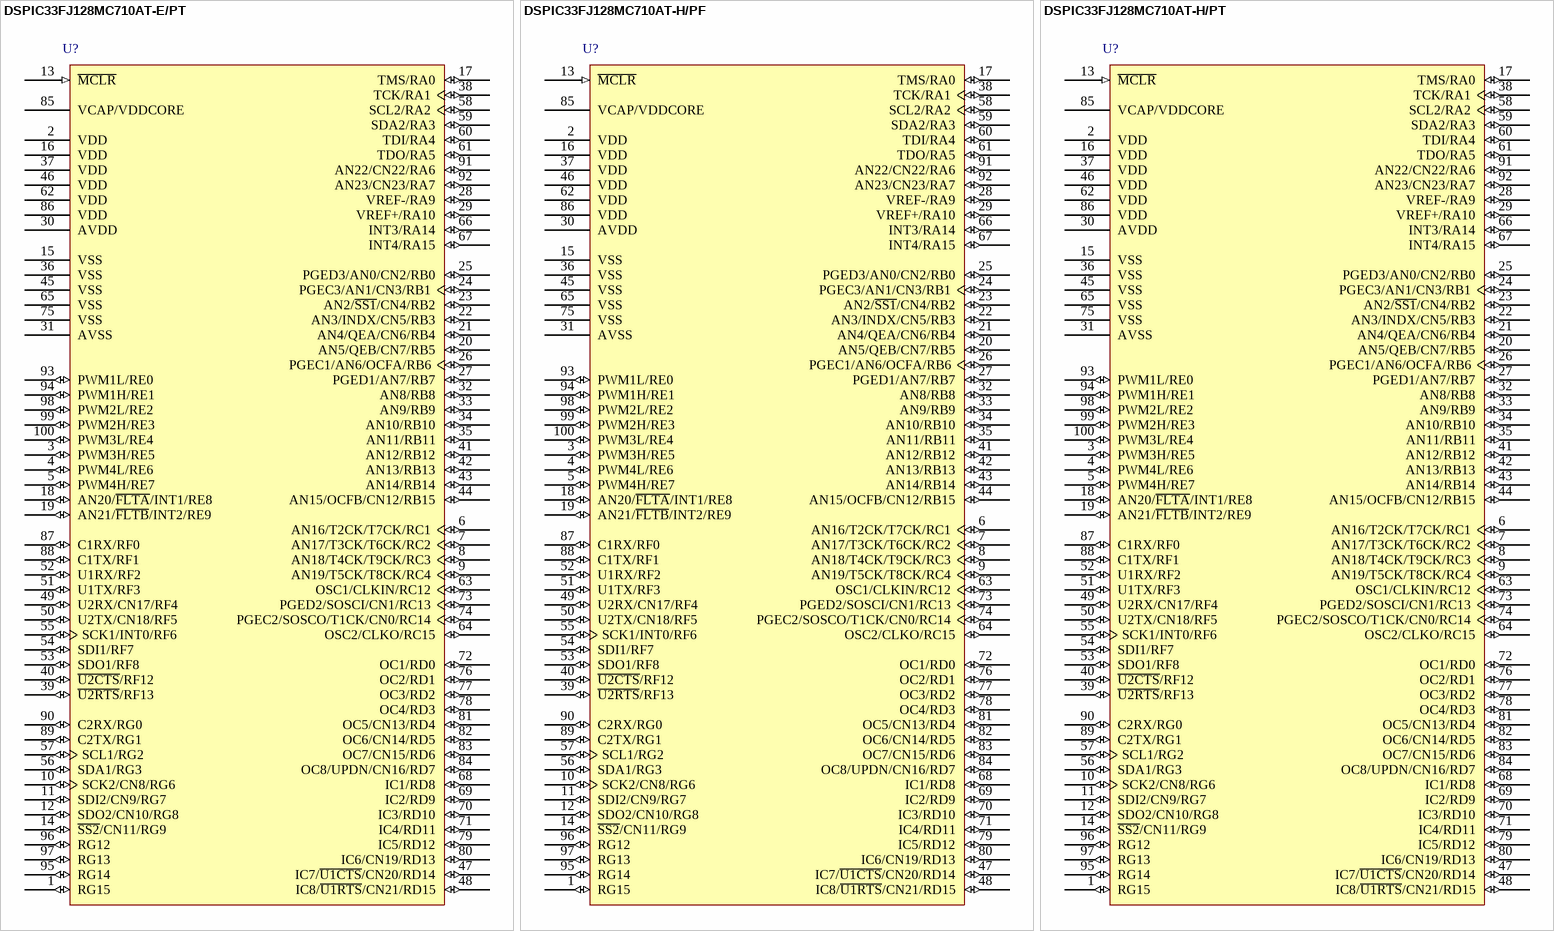
[diagram p137: symbols DSPIC33FJ128MC710AT-E/PT to DSPIC33FJ128MC710AT-H/PT]

## DSPIC33FJ128MC710AT-E/PT
designator U?
High-Performance 16-bit Digital Signal Controller, 128 KB Flash, 16 KB RAM , 100-Pin TQFP, Extended High Temperature , Tape and Reel; Manufacturer: Microchip; PartNumber: DSPIC33FJ128MC710AT-E/PT; DatasheetVersion: revB, Oct-2009; PackageVersion: revBB, Aug-2009; PackageReference: TQFP-PT100; PackageDescription: 100-Lead Plastic Thin Quad Flatpack (PT) - 12x12x1mm Body, 2.00mm [TQFP]; Mounting Technology: Surface Mount; ComponentLink1Description: Manufacturer URL; ComponentLink1URL: http://www.microchip.com/; ComponentLink2Description: Datasheet; ComponentLink2URL: http://ww1.microchip.com/downloads/en/DeviceDoc/70594B.pdf; ComponentLink3Description: Package Specification; ComponentLink3URL: http://www.microchip.com/stellent/groups/techpub_sg/documents/packagingspec/en012702.pdf
footprint TQFP-PT100_N (Thin QFP, 100-Leads, Body 12x12mm, Pitch 0.4mm, IPC Medium Density)
footprint TQFP-PT100_L (Thin QFP, 100-Leads, Body 12x12mm, Pitch 0.4mm, IPC High Density)
footprint TQFP-PT100_M (Thin QFP, 100-Leads, Body 12x12mm, Pitch 0.4mm, IPC Low Density)
pins: 1 RG15 (io), 2 VDD (power), 3 PWM3H/RE5 (io), 4 PWM4L/RE6 (io), 5 PWM4H/RE7 (io), 6 AN16/T2CK/T7CK/RC1 (io), 7 AN17/T3CK/T6CK/RC2 (io), 8 AN18/T4CK/T9CK/RC3 (io), 9 AN19/T5CK/T8CK/RC4 (io), 10 SCK2/CN8/RG6 (io), 11 SDI2/CN9/RG7 (io), 12 SDO2/CN10/RG8 (io), 13 ~{MCLR} (in), 14 ~{SS2}/CN11/RG9 (io), 15 VSS (power), 16 VDD (power), 17 TMS/RA0 (io), 18 AN20/~{FLTA}/INT1/RE8 (io), 19 AN21/~{FLTB}/INT2/RE9 (io), 20 AN5/QEB/CN7/RB5 (io), 21 AN4/QEA/CN6/RB4 (io), 22 AN3/INDX/CN5/RB3 (io), 23 AN2/~{SS1}/CN4/RB2 (io), 24 PGEC3/AN1/CN3/RB1 (io), 25 PGED3/AN0/CN2/RB0 (io), 26 PGEC1/AN6/OCFA/RB6 (io), 27 PGED1/AN7/RB7 (io), 28 VREF-/RA9 (io), 29 VREF+/RA10 (io), 30 AVDD (power), 31 AVSS (power), 32 AN8/RB8 (io), 33 AN9/RB9 (io), 34 AN10/RB10 (io), 35 AN11/RB11 (io), 36 VSS (power), 37 VDD (power), 38 TCK/RA1 (io), 39 ~{U2RTS}/RF13 (io), 40 ~{U2CTS}/RF12 (io), 41 AN12/RB12 (io), 42 AN13/RB13 (io), 43 AN14/RB14 (io), 44 AN15/OCFB/CN12/RB15 (io), 45 VSS (power), 46 VDD (power), 47 IC7/~{U1CTS}/CN20/RD14 (io), 48 IC8/~{U1RTS}/CN21/RD15 (io), 49 U2RX/CN17/RF4 (io), 50 U2TX/CN18/RF5 (io), 51 U1TX/RF3 (io), 52 U1RX/RF2 (io), 53 SDO1/RF8 (io), 54 SDI1/RF7 (io), 55 SCK1/INT0/RF6 (io), 56 SDA1/RG3 (io), 57 SCL1/RG2 (io), 58 SCL2/RA2 (io), 59 SDA2/RA3 (io), 60 TDI/RA4 (io), 61 TDO/RA5 (io), 62 VDD (power), 63 OSC1/CLKIN/RC12 (io), 64 OSC2/CLKO/RC15 (io), 65 VSS (power), 66 INT3/RA14 (io), 67 INT4/RA15 (io), 68 IC1/RD8 (io), 69 IC2/RD9 (io), 70 IC3/RD10 (io), 71 IC4/RD11 (io), 72 OC1/RD0 (io), 73 PGED2/SOSCI/CN1/RC13 (io), 74 PGEC2/SOSCO/T1CK/CN0/RC14 (io), 75 VSS (power), 76 OC2/RD1 (io), 77 OC3/RD2 (io), 78 OC4/RD3 (io), 79 IC5/RD12 (io), 80 IC6/CN19/RD13 (io), 81 OC5/CN13/RD4 (io), 82 OC6/CN14/RD5 (io), 83 OC7/CN15/RD6 (io), 84 OC8/UPDN/CN16/RD7 (io), 85 VCAP/VDDCORE (power), 86 VDD (power), 87 C1RX/RF0 (io), 88 C1TX/RF1 (io), 89 C2TX/RG1 (io), 90 C2RX/RG0 (io), 91 AN22/CN22/RA6 (io), 92 AN23/CN23/RA7 (io), 93 PWM1L/RE0 (io), 94 PWM1H/RE1 (io), 95 RG14 (io), 96 RG12 (io), 97 RG13 (io), 98 PWM2L/RE2 (io), 99 PWM2H/RE3 (io), 100 PWM3L/RE4 (io)